# Altium integrated library TL3562-EVM-A1.1-000.IntLib: 110 symbols (part 1 of 2)
Pins are listed as number, name and electrical type; pins without a type are passive.

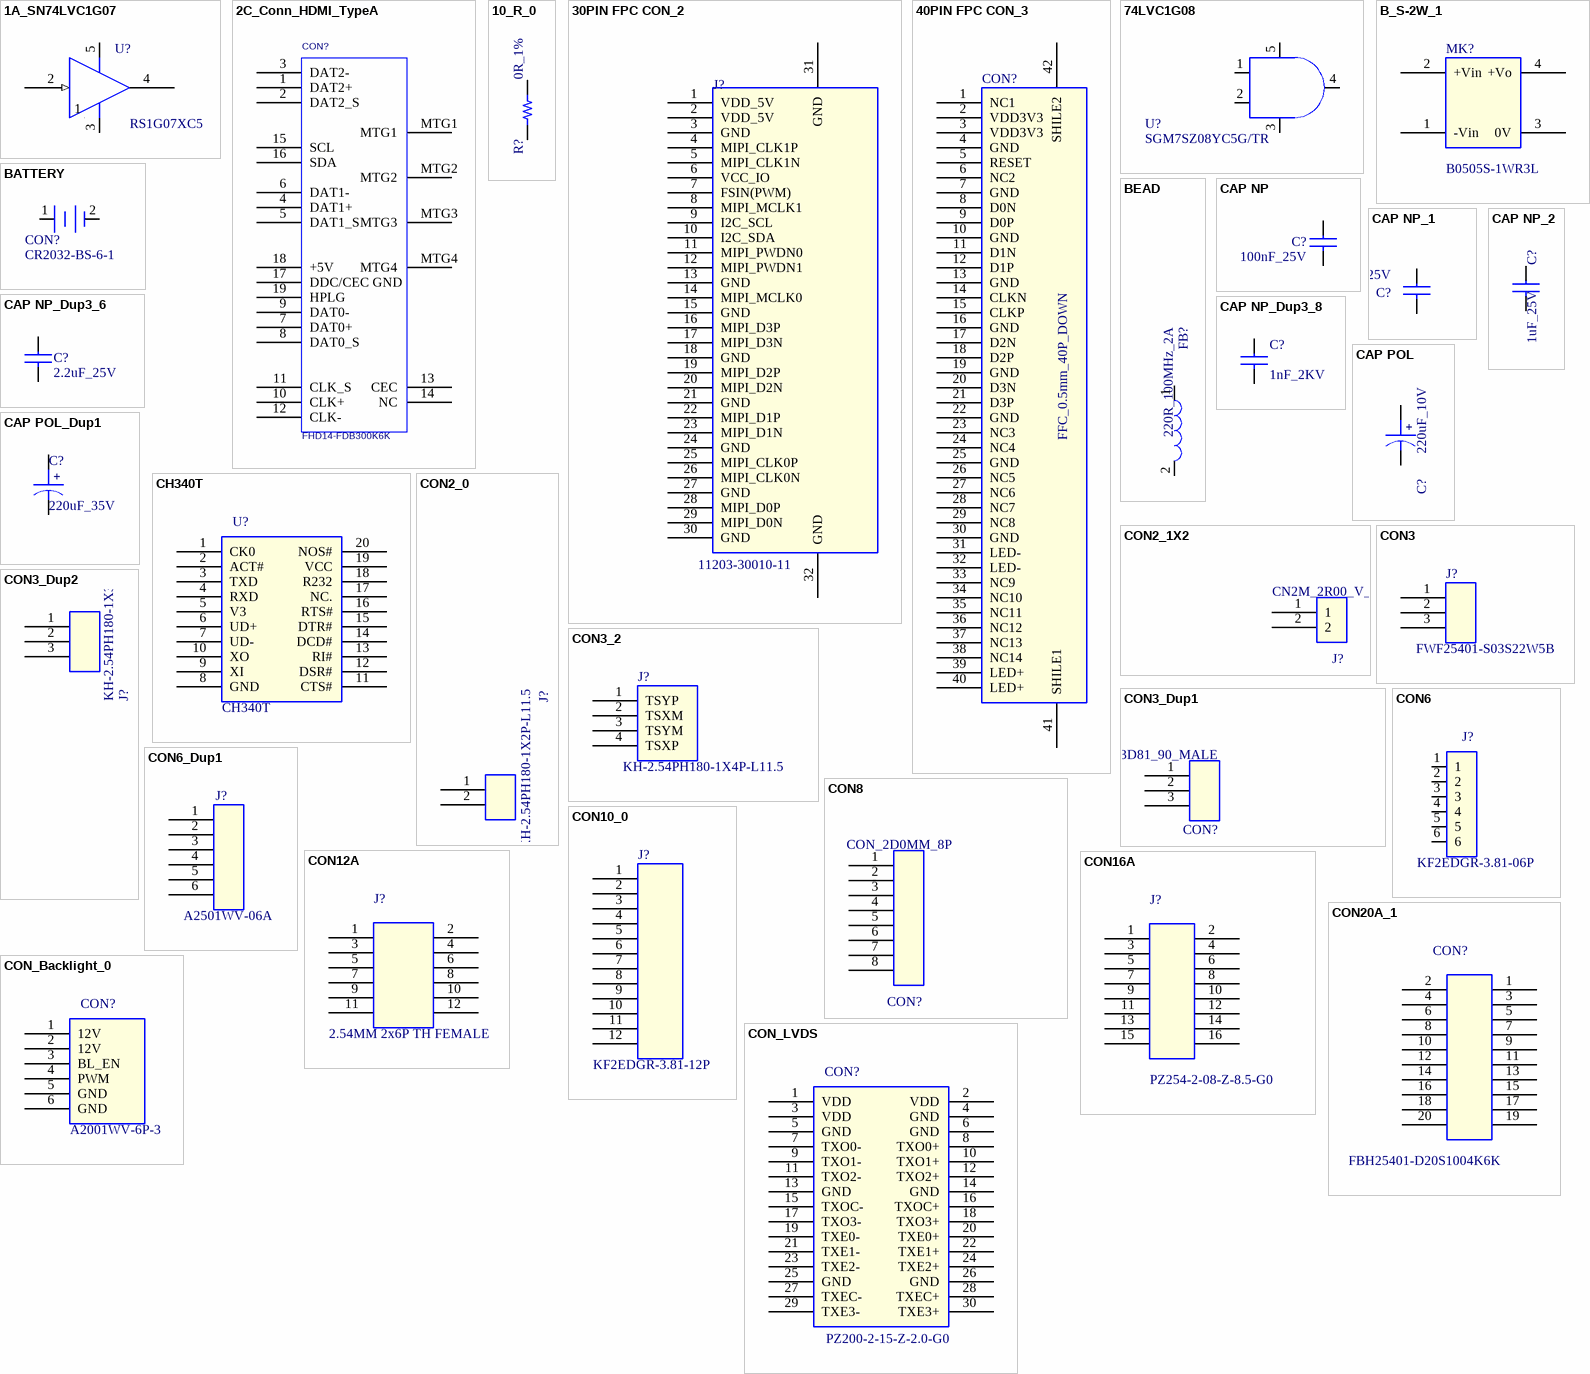
[diagram p0: symbols 1A_SN74LVC1G07 to CON_LVDS]

## 1A_SN74LVC1G07
designator U?, comment RS1G07XC5
1个1位缓冲器; PartName: SN74LVC1G07DCK; Mfr: TI; TIIntPartnumber: 1A0269; Manufacturer: 江苏润石科技有限公司（RUNIC）; Manufacturer Character: 中国大陆; Vendor: Digikey; Cost100: 1.11; Cost10K: 0.04; PCB Footprint: smd_dck5pin; DescriptiveText: Driver Open Drain output; Operation Temperature（℃）: -40~125℃; Remark: 单路开漏输出缓冲器/驱动器; MfrNum: SN74LVC1G07DCK; Temperature: -40~125℃; Manufacturer PartNumber: RS1G07XC5
footprint SC70-5-43M
pins: 1 NC, 2 A (in), 3 GND (power), 4 Y (oc), 5 VCC (power)

## 2C_Conn_HDMI_TypeA
designator CON?, comment FHD14-FDB300K6K
HDMI接口，19PIN，侧立，90度; PartName: Conn_HDMI_A; Mfr: FCI; MfrNum: 10029449-001RLF; TIIntPartnumber: 2C0085; Manufacturer Character: 中国大陆; Manufacturer: 深圳特思嘉工业电子有限公司（TXGA）; DescriptiveText: Connector HDMI Type A RA; Vendor: Digikey; Cost100: 0.91; Cost10K: 0.37; PCB Footprint: SMD_Ratbd; Operation Temperature（℃）: -40~85℃; Temperature: -25~75℃; Remark: HDMI接口，19PIN，侧立，90度; Manufacturer PartNumber: FHD14-FDB300K6K
footprint DIP_HDMI-A
pins: 1 DAT2+, 2 DAT2_S, 3 DAT2-, 4 DAT1+, 5 DAT1_S, 6 DAT1-, 7 DAT0+, 8 DAT0_S, 9 DAT0-, 10 CLK+, 11 CLK_S, 12 CLK-, 13 CEC, 14 NC, 15 SCL, 16 SDA, 17 DDC/CEC GND, 18 +5V, 19 HPLG, MTG1 (power), MTG2 (power), MTG3 (power), MTG4 (power)

## 10_R_0
designator R?, comment 0R_1%
0R,±1%,R0402,≥1/16W; Manufacturer Character: 中国大陆; CLASS: DISCRETE; room: ecat1; Operation Temperature（℃）: -55~155℃; As-Welded: /; Temperature: -55~155℃; PCB Footprint: R0402
footprint R0402
pins: 1, 2

## 30PIN FPC CON_2
designator J?, comment 11203-30010-11
FFC座,30PIN,间距0.5MM,90度,翻盖下接式,贴片; Manufacturer Character: 中国大陆; Manufacturer: 深圳市联畅精密电子有限公司; As-Welded: /; PCB Footprint: CON_FFC_0D5_30P; Manufacturer PartNumber: 11203-30010-11; Temperature: -55~85℃
footprint CON_FFC_0D5_30P
pins: 1 VDD_5V (power), 2 VDD_5V (power), 3 GND (power), 4 MIPI_CLK1P, 5 MIPI_CLK1N, 6 VCC_IO, 7 FSIN(PWM), 8 MIPI_MCLK1, 9 I2C_SCL, 10 I2C_SDA, 11 MIPI_PWDN0, 12 MIPI_PWDN1, 13 GND (power), 14 MIPI_MCLK0, 15 GND (power), 16 MIPI_D3P, 17 MIPI_D3N, 18 GND (power), 19 MIPI_D2P, 20 MIPI_D2N, 21 GND (power), 22 MIPI_D1P, 23 MIPI_D1N, 24 GND (power), 25 MIPI_CLK0P, 26 MIPI_CLK0N, 27 GND (power), 28 MIPI_D0P, 29 MIPI_D0N, 30 GND (power), 31 GND (power), 32 GND (power)

## 40PIN FPC CON_3
designator CON?, comment FFC_0.5mm_40P_DOWN
FFC座,40PIN,间距0.5MM,90度,翻盖下接式,贴片; Manufacturer Character: 中国大陆; Manufacturer PartNumber: 11203-40010-11; Manufacturer: 深圳市联畅精密电子有限公司; As-Welded: /; PCB Footprint: CON_FFC_0D5_40P; Temperature: -55~85℃
footprint CON_FFC_0D5_40P
pins: 1 NC1, 2 VDD3V3 (power), 3 VDD3V3 (power), 4 GND (power), 5 RESET, 6 NC2, 7 GND (power), 8 D0N, 9 D0P, 10 GND (power), 11 D1N, 12 D1P, 13 GND (power), 14 CLKN, 15 CLKP, 16 GND (power), 17 D2N, 18 D2P, 19 GND (power), 20 D3N, 21 D3P, 22 GND (power), 23 NC3, 24 NC4, 25 GND (power), 26 NC5, 27 NC6, 28 NC7, 29 NC8, 30 GND (power), 31 LED- (power), 32 LED- (power), 33 NC9, 34 NC10, 35 NC11, 36 NC12, 37 NC13, 38 NC14, 39 LED+ (power), 40 LED+ (power), 41 SHILE1, 42 SHILE2

## 74LVC1G08
designator U?, comment SGM7SZ08YC5G/TR
1个两输入与门; Manufacturer: 圣邦微电子股份有限公司（SGMICRO）; Manufacturer Character: 中国大陆; As-Welded: /; Operation Temperature（℃）: -40~85℃; PCB Footprint: SC70-5-43M; Manufacturer PartNumber: SGM7SZ08YC5G/TR; Temperature: -40~85℃
footprint SC70-5-43M
pins: 1 A, 2 B, 3 GND, 4 Y, 5 VCC

## B_S-2W_1
designator MK?, comment B0505S-1WR3L
DC-DC隔离电源,B0505S-1WR3L,输入电压5V,输出电压5V,输出电流max/min=200/20mA,效率max/min=78/82; Manufacturer: 广州金升阳科技有限公司（MORNSUN）; Manufacturer Character: 中国大陆; As-Welded: /; Operation Temperature（℃）: -40~105℃; PCB Footprint: DIP4_B0505S_1W; Manufacturer PartNumber: B0505S-1WR3L; Temperature: -40~85℃
footprint DIP4_B0505S_1W
pins: 1 -Vin, 2 +Vin, 3 0V, 4 +Vo

## BATTERY
designator CON?, comment CR2032-BS-6-1
2032,纽扣电池座,2PIN,180度,白色,卧式,贴片; Manufacturer: 深圳市琦捷电子有限公司（Q&J）; Manufacturer Character: 中国大陆; As-Welded: /; room: 4; PCB Footprint: CON_BATTERY_CR2032; Manufacturer PartNumber: CR2032-BS-6-1; Temperature: -55~85℃
footprint CON_BATTERY_CR2032
pins: 1 +, 2 -

## BEAD
designator FB?, comment 220R_100MHz_2A
磁珠,50mΩ,2.2A,220R@100MHz; Manufacturer Character: 中国大陆; Manufacturer PartNumber: UPZ1608U221-2R2TF; Manufacturer: 深圳顺络电子股份有限公司（Sunlord）; PCB Footprint: L0603; As-Welded: /; RK PN: BLM18PG181SN1; Priority: A; Operation Temperature（℃）: -55~125℃; Temperature: -55~+125(Ta); Part Type: BEAD; Manufacturer PN: BLM18PG181SN1; Created by: YTL
footprint L0603
pins: 1, 2

## CAP NP
designator C?, comment 100nF_25V
贴片陶瓷电容,100nF,10%,25V,X5R; Manufacturer Character: 中国大陆; PCB Footprint: C0402; RK PN: C1005X5R1A104K050BA; Priority: A; Voltage: 10V; As-Welded: /; Operation Temperature（℃）: -55~85℃; Part Type: C0402; Dielectric: X5R; Tolerance: 10%; Manufacturer PN: C1005X5R1A104K050BA; Created by: JJJ
footprint C0402
pins: 1, 2

## CAP NP_1
designator C?, comment 22uF_25V
贴片陶瓷电容,22uF,20%,25V,X5R; Manufacturer PN: C2012X5R1A226K125AB; Manufacturer Character: 中国大陆; PCB Footprint: C0805; Operation Temperature（℃）: -55~85℃; As-Welded: /; Tolerance: 10%; Voltage: 10V; Priority: A; Created by: JJJ; Dielectric: X5R; Part Type: C0805; RK PN: C2012X5R1A226K125AB
footprint C0805
pins: 1, 2

## CAP NP_2
designator C?, comment 1uF_25V
贴片陶瓷电容,1uF,10%,25V,X5R; Manufacturer Character: 中国大陆; As-Welded: /; Operation Temperature（℃）: -55~85℃; room: 10; PCB Footprint: C0603
footprint C0603
pins: 1, 2

## CAP NP_Dup3_6
designator C?, comment 2.2uF_25V
贴片陶瓷电容,2.2uF,20%,25V,Y5V; Manufacturer Character: 中国大陆; As-Welded: /; Operation Temperature（℃）: -20~85℃; PCB Footprint: C1206
footprint C1206
pins: 1, 2

## CAP NP_Dup3_8
designator C?, comment 1nF_2KV
贴片陶瓷电容,1nF,10%,2KV,X7R; Manufacturer Character: 中国大陆; As-Welded: /; Operation Temperature（℃）: -55~125℃; PCB Footprint: C1210; Temperature: –55~125℃
footprint C1210
pins: 1, 2

## CAP POL
designator C?, comment 220uF_10V
D型钽电容,220uF,10%,10V; Manufacturer Character: 中国大陆; Manufacturer PartNumber: CA45-D010K227T; Manufacturer: 湖南湘怡中元科技有限公司; PCB Footprint: CAP_CASE_D; Operation Temperature（℃）: -55~125℃; As-Welded: /; Temperature: -55~125℃
footprint CAP_CASE_D
pins: 1, 2
text: +

## CAP POL_Dup1
designator C?, comment 220uF_35V
贴片式铝电解电容,220uF,20%,35V; Manufacturer PartNumber: RVT1V221M0810VG; Manufacturer: 东莞市合粤电子有限公司（Heyue）; Manufacturer Character: 中国大陆; As-Welded: /; room: DCIN; Operation Temperature（℃）: -55~105℃; PCB Footprint: cap_alu_smd_8x10d5; Temperature: -55~105℃
footprint cap_alu_smd_8x10d5
pins: 1, 2
text: +

## CH340T
designator U?
USB转UART芯片; Manufacturer Character: 中国大陆; Manufacturer: 南京沁恒微电子股份有限公司（WCH）; As-Welded: /; Operation Temperature（℃）: -40~85℃; PCB Footprint: TSSOP-20; Temperature: -40~85℃; Manufacturer PartNumber: CH340T
footprint TSSOP-20
pins: 1 CK0, 2 ACT#, 3 TXD, 4 RXD, 5 V3, 6 UD+, 7 UD-, 8 GND, 9 XI, 10 XO, 11 CTS#, 12 DSR#, 13 RI#, 14 DCD#, 15 DTR#, 16 RTS#, 17 NC., 18 R232, 19 VCC, 20 NOS#

## CON2_0
designator J?, comment KH-2.54PH180-1X2P-L11.5
排针,1x2PIN,间距2.54MM,180度,黑色,插件; Manufacturer Character: 中国大陆; Manufacturer: 深圳市金航标电子有限公司(kinghelm); PCB Footprint: header_1x2p_2d54_male; Operation Temperature（℃）: -55~105℃; As-Welded: /; Manufacturer PartNumber: KH-2.54PH180-1X2P-L11.5; Temperature: -40~105℃
footprint header_1x2p_2d54_male
pins: 1, 2

## CON2_1X2
designator J?, comment CN2M_2R00_V_P_DIP
端子座,1x2PIN,间距2.00MM,180度,插件; Manufacturer: 深圳市长江连接器有限公司（CJT）; Manufacturer Character: 中国大陆; Manufacturer PartNumber: A2001WV-2P-3; Operation Temperature（℃）: -40~105℃; RK PN: CW2001-02G-S03-C; Priority: A; As-Welded: /; PCB Footprint: CN2M_2R00_V_P_DIP; Part Type: Header; Manufacturer Part Number: CW2001-02G-S03-C; Created by: YWQ
footprint CN2M_2R00_V_P_DIP
pins: 1, 2

## CON3
designator J?, comment FWF25401-S03S22W5B
端子座,3PIN,间距2.54MM,180度,2510连接器,白色,插件; Manufacturer Character: 中国大陆; Manufacturer: 深圳特思嘉工业电子有限公司（TXGA）; As-Welded: /; PCB Footprint: mol22-23-2031; Manufacturer PartNumber: FWF25401-S03S22W5B; Temperature: -25~85℃
footprint mol22-23-2031
pins: 1, 2, 3

## CON3_2
designator J?, comment KH-2.54PH180-1X4P-L11.5
排针,1X4PIN,间距2.54MM,180度,黑色,插件; Manufacturer Character: 中国大陆; Manufacturer: 深圳市金航标电子有限公司(kinghelm); PCB Footprint: CON_TH_1x4P_2D54_H_DIP; room: DAC; Operation Temperature（℃）: -40~105℃; As-Welded: /; Manufacturer PartNumber: KH-2.54PH180-1X4P-L11.5; Temperature: -40-105℃
footprint CON_TH_1x4P_2D54_H_DIP
pins: 1 TSYP, 2 TSXM, 3 TSYM, 4 TSXP

## CON3_Dup1
designator CON?, comment CON_3P_3D81_90_MALE
端子座,3PIN,间距3.81MM,90度,绿色,插件; Manufacturer PartNumber: KF2EDGR-3.81-03P-14; Manufacturer: 慈溪市科发电子有限公司（KEFA）; Manufacturer Character: 中国大陆; As-Welded: /; room: 17; Operation Temperature（℃）: -40~105℃; PCB Footprint: CON_3P_3D81_90_MALE_NEW
footprint CON_3P_3D81_90_MALE_NEW
pins: 1, 2, 3

## CON3_Dup2
designator J?, comment KH-2.54PH180-1X3P-L11.5
排针,1x3PIN,间距2.54MM,180度,黑色,插件; Manufacturer: 深圳市金航标电子有限公司(kinghelm); Manufacturer Character: 中国大陆; PCB Footprint: CON3_2D254; room: DAC; Operation Temperature（℃）: -55~105℃; As-Welded: /; Manufacturer PartNumber: KH-2.54PH180-1X3P-L11.5; Temperature: -55~105℃
footprint CON3_2D254
pins: 1, 2, 3

## CON6
designator J?, comment KF2EDGR-3.81-06P
端子座,6PIN,间距3.81MM,90度,插件; Manufacturer Character: 中国大陆; Manufacturer: 慈溪市科发电子有限公司（KEFA）; PCB Footprint: kf2eg_3_81-6p; Operation Temperature（℃）: -40~105℃; As-Welded: /; Manufacturer PartNumber: KF2EDGR-3.81-06P
footprint kf2eg_3_81-6p
pins: 1, 2, 3, 4, 5, 6

## CON6_Dup1
designator J?, comment A2501WV-06A
XH2.54  6P 连接器 180度; Manufacturer: 深圳市长江连接器有限公司（CJT）; Manufacturer Character: 中国大陆; PCB Footprint: CON_XH_1x6P_2D54_H_M_DIP; Operation Temperature（℃）: -25~85℃; As-Welded: /; Temperature: -25~85℃; Manufacturer PartNumber: A2501WV-06A
footprint CON_XH_1x6P_2D54_H_M_DIP
pins: 1, 2, 3, 4, 5, 6

## CON8
designator CON?, comment CON_2D0MM_8P
端子座,1x8PIN,间距2.00MM,180度,插件; Manufacturer: 深圳市长江连接器有限公司（CJT）; Manufacturer Character: 中国大陆; Manufacturer PartNumber: A2001WV-8P-3; As-Welded: /; Operation Temperature（℃）: -40~105℃; PCB Footprint: DIP_CON_2D0MM_8P
footprint DIP_CON_2D0MM_8P
pins: 1, 2, 3, 4, 5, 6, 7, 8

## CON10_0
designator J?, comment KF2EDGR-3.81-12P
端子座,12PIN,间距3.81MM,90度,插件; Manufacturer: 慈溪市科发电子有限公司（KEFA）; Manufacturer Character: 中国大陆; PCB Footprint: KF2EDGR-3d81-12P; As-Welded: /; Operation Temperature（℃）: -40~105℃; Manufacturer PartNumber: KF2EDGR-3.81-12P; Temperature: -40~105℃
footprint KF2EDGR-3d81-12P
pins: 1, 2, 3, 4, 5, 6, 7, 8, 9, 10, 11, 12

## CON12A
designator J?, comment 2.54MM 2x6P TH FEMALE
排母,2X6PIN,间距2.54MM,180度,插件; Manufacturer Character: 中国大陆; Manufacturer PartNumber: A2541HWV-2x6P; Manufacturer: 深圳市长江连接器有限公司（CJT）; PCB Footprint: header_2x6_2d54_male; As-Welded: /; Temperature: -55~105℃
footprint header_2x6_2d54_male
pins: 1, 2, 3, 4, 5, 6, 7, 8, 9, 10, 11, 12

## CON16A
designator J?, comment PZ254-2-08-Z-8.5-G0
排针,2x8PIN,间距2.54MM,180度,黑色,插件; Manufacturer Character: 中国大陆; Manufacturer: 深圳市华灿天禄电子有限公司（hctldz）; Operation Temperature（℃）: -40~105℃; As-Welded: /; PCB Footprint: CON_2D54_2x8_TH; Manufacturer PartNumber: PZ254-2-08-Z-8.5-G0
footprint CON_2D54_2x8_TH
pins: 1, 2, 3, 4, 5, 6, 7, 8, 9, 10, 11, 12, 13, 14, 15, 16

## CON20A_1
designator CON?, comment FBH25401-D20S1004K6K
简易牛角座,2X10PIN,间距2.54MM,180度,公座,黑色,插件; Manufacturer: 深圳特思嘉工业电子有限公司（TXGA）; Manufacturer Character: 中国大陆; PCB Footprint: con_2d54_2x10_th_box; As-Welded: /; Operation Temperature（℃）: -40~105℃; Manufacturer PartNumber: FBH25401-D20S1004K6K
footprint con_2d54_2x10_th_box
pins: 1, 2, 3, 4, 5, 6, 7, 8, 9, 10, 11, 12, 13, 14, 15, 16, 17, 18, 19, 20

## CON_Backlight_0
designator CON?, comment A2001WV-6P-3
白色端子,立式插件,间距2.0mm,6P; Manufacturer: 深圳市长江连接器有限公司（CJT）; Manufacturer Character: 中国大陆; As-Welded: /; PCB Footprint: CON_PHD_2D0_1x6P_TH_180; Manufacturer PartNumber: A2001WV-6P-3; Temperature: -25~85℃
footprint CON_PHD_2D0_1x6P_TH_180
pins: 1 12V (power), 2 12V (power), 3 BL_EN, 4 PWM, 5 GND (power), 6 GND (power)

## CON_LVDS
designator CON?, comment PZ200-2-15-Z-2.0-G0
排针,2x15PIN,间距2.00MM,180度,黑色,插件; Manufacturer: 深圳市华灿天禄电子有限公司（hctldz）; Manufacturer Character: 中国大陆; PCB Footprint: con_2mm_2x15p; Operation Temperature（℃）: -40~105℃; As-Welded: /; Manufacturer PartNumber: PZ200-2-15-Z-2.0-G0; Temperature: -40~105℃
footprint con_2mm_2x15p
pins: 1 VDD (power), 2 VDD (power), 3 VDD (power), 4 GND (power), 5 GND (power), 6 GND (power), 7 TXO0-, 8 TXO0+, 9 TXO1-, 10 TXO1+, 11 TXO2-, 12 TXO2+, 13 GND (power), 14 GND (power), 15 TXOC-, 16 TXOC+, 17 TXO3-, 18 TXO3+, 19 TXE0-, 20 TXE0+, 21 TXE1-, 22 TXE1+, 23 TXE2-, 24 TXE2+, 25 GND (power), 26 GND (power), 27 TXEC-, 28 TXEC+, 29 TXE3-, 30 TXE3+

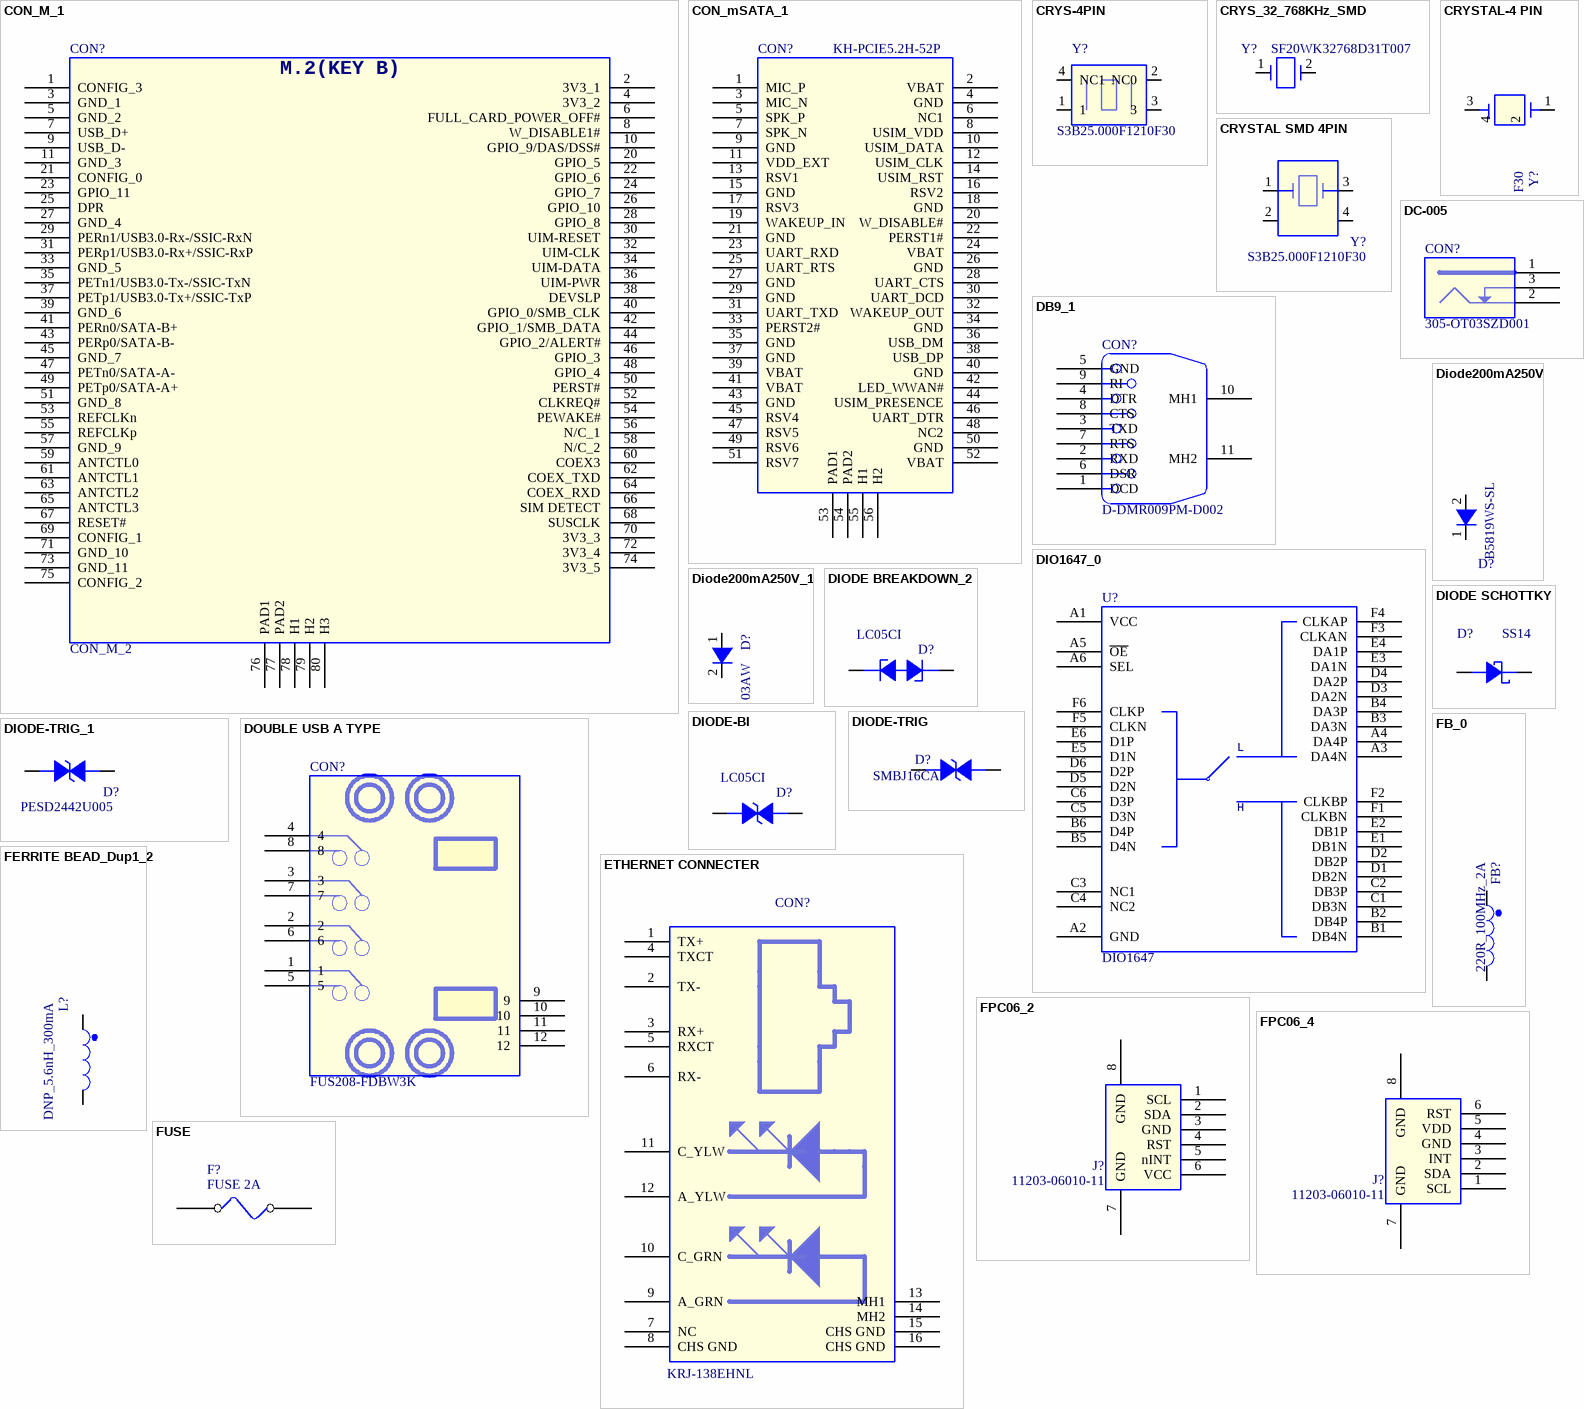
[diagram p1: symbols CON_M_1 to FUSE]

## CON_M_1
designator CON?, comment CON_M_2
NGFF（M.2）金手指连接器，KEY B,高4.2mm; Manufacturer PartNumber: APCI0105-P001A; Manufacturer: 深圳市连欣科技有限公司; PCB Footprint: conn-smd_apci0103-p001a; As-Welded: /
footprint conn-smd_apci0103-p001a
pins: 1 CONFIG_3, 2 3V3_1, 3 GND_1, 4 3V3_2, 5 GND_2, 6 FULL_CARD_POWER_OFF#, 7 USB_D+, 8 W_DISABLE1#, 9 USB_D-, 10 GPIO_9/DAS/DSS#, 11 GND_3, 20 GPIO_5, 21 CONFIG_0, 22 GPIO_6, 23 GPIO_11, 24 GPIO_7, 25 DPR, 26 GPIO_10, 27 GND_4, 28 GPIO_8, 29 PERn1/USB3.0-Rx-/SSIC-RxN, 30 UIM-RESET, 31 PERp1/USB3.0-Rx+/SSIC-RxP, 32 UIM-CLK, 33 GND_5, 34 UIM-DATA, 35 PETn1/USB3.0-Tx-/SSIC-TxN, 36 UIM-PWR, 37 PETp1/USB3.0-Tx+/SSIC-TxP, 38 DEVSLP, 39 GND_6, 40 GPIO_0/SMB_CLK, 41 PERn0/SATA-B+, 42 GPIO_1/SMB_DATA, 43 PERp0/SATA-B-, 44 GPIO_2/ALERT#, 45 GND_7, 46 GPIO_3, 47 PETn0/SATA-A-, 48 GPIO_4, 49 PETp0/SATA-A+, 50 PERST#, 51 GND_8, 52 CLKREQ#, 53 REFCLKn, 54 PEWAKE#, 55 REFCLKp, 56 N/C_1, 57 GND_9, 58 N/C_2, 59 ANTCTL0, 60 COEX3, 61 ANTCTL1, 62 COEX_TXD, 63 ANTCTL2, 64 COEX_RXD, 65 ANTCTL3, 66 SIM DETECT, 67 RESET#, 68 SUSCLK, 69 CONFIG_1, 70 3V3_3, 71 GND_10, 72 3V3_4, 73 GND_11, 74 3V3_5, 75 CONFIG_2, 76 PAD1, 77 PAD2, 78 H1, 79 H2, 80 H3
text: M.2(KEY B)

## CON_mSATA_1
designator CON?, comment KH-PCIE5.2H-52P
mini PCIE SMT插槽 5.2高; Manufacturer Character: 中国大陆; Manufacturer: 深圳市金航标电子有限公司(kinghelm); PCB Footprint: CON_MINI_PCIE_4G; As-Welded: /; Temperature: -25~80℃; Manufacturer PartNumber: KH-PCIE5.2H-52P
footprint CON_MINI_PCIE_4G
pins: 1 MIC_P, 2 VBAT (power), 3 MIC_N, 4 GND (power), 5 SPK_P, 6 NC1, 7 SPK_N, 8 USIM_VDD, 9 GND (power), 10 USIM_DATA, 11 VDD_EXT, 12 USIM_CLK, 13 RSV1, 14 USIM_RST, 15 GND (power), 16 RSV2, 17 RSV3, 18 GND (power), 19 WAKEUP_IN, 20 W_DISABLE#, 21 GND (power), 22 PERST1#, 23 UART_RXD, 24 VBAT (power), 25 UART_RTS, 26 GND (power), 27 GND (power), 28 UART_CTS, 29 GND (power), 30 UART_DCD, 31 UART_TXD, 32 WAKEUP_OUT, 33 PERST2#, 34 GND (power), 35 GND (power), 36 USB_DM, 37 GND (power), 38 USB_DP, 39 VBAT (power), 40 GND (power), 41 VBAT (power), 42 LED_WWAN#, 43 GND (power), 44 USIM_PRESENCE, 45 RSV4, 46 UART_DTR, 47 RSV5, 48 NC2, 49 RSV6, 50 GND (power), 51 RSV7, 52 VBAT (power), 53 PAD1, 54 PAD2, 55 H1, 56 H2

## CRYS-4PIN
designator Y?, comment S3B25.000F1210F30
四脚无源晶振,25MHz,±10ppm,12pF,30Ω,±30ppm; Manufacturer Character: 中国大陆; Manufacturer: 深圳市星通时频电子有限公司公司（JSCJ）; As-Welded: /; Operation Temperature（℃）: -40~85℃; PCB Footprint: SMD_3225; Temperature: -40~85℃; Manufacturer PartNumber: S3B25.000F1210F30
footprint SMD_3225
pins: 1, 2 NC0, 3, 4 NC1

## CRYS_32_768KHz_SMD
designator Y?, comment SF20WK32768D31T007
两脚无源晶振,32.768KHz,±20ppm,12.5pF,80KΩ,±20ppm; PartName: Crystal32.768KHzMC306; Mfr: Epson; MfrNum: MC-30632.7680k-A; TIIntPartnumber: 1Y0029; Manufacturer: 湖北泰晶电子科技股份有限公司（TKD）; Manufacturer Character: 中国大陆; TN: tbd; Vendor: Digikey; Cost100: 0.41; Cost10K: 0.338; PCB Footprint: smd; As-Welded: /; Operation Temperature（℃）: -40~85℃; Manufacturer PartNumber: SF20WK32768D31T007; Temperature: -40~85℃
footprint SMD_2012
pins: 1, 2

## CRYSTAL SMD 4PIN
designator Y?, comment S3B25.000F1210F30
四脚无源晶振,25MHz,±10ppm,12pF,30Ω,±30ppm; Manufacturer Character: 中国大陆; Manufacturer: 深圳市星通时频电子有限公司公司（JSCJ）; PCB Footprint: SMD_3225; room: RGMII1; Operation Temperature（℃）: -40~85℃; As-Welded: /; Temperature: -55~150℃; Manufacturer PartNumber: S3B25.000F1210F30
footprint SMD_3225
pins: 1, 2, 3, 4

## CRYSTAL-4 PIN
designator Y?, comment S3B25.000F1210F30
四脚无源晶振,25MHz,±10ppm,12pF,30Ω,±30ppm; Manufacturer Character: 中国大陆; Manufacturer: 深圳市星通时频电子有限公司公司（JSCJ）; As-Welded: /; Operation Temperature（℃）: -40~85℃; PCB Footprint: SMD_3225; Manufacturer PartNumber: S3B25.000F1210F30; Temperature: -40~85
footprint SMD_3225
pins: 1, 2, 3, 4

## DB9_1
designator CON?, comment D-DMR009PM-D002
DB9,9PIN,90度,公头,黑色,插件; Manufacturer: 深圳市灿科盟实业有限公司（ckmtw）; Manufacturer Character: 中国大陆; PCB Footprint: CON_DB9; As-Welded: /; Operation Temperature（℃）: -50~105℃; room: RS232; Temperature: -55~105℃; Manufacturer PartNumber: D-DMR009PM-D002
footprint CON_DB9
pins: 1 DCD, 2 RXD, 3 TXD, 4 DTR, 5 GND (power), 6 DSR, 7 RTS, 8 CTS, 9 RI, 10 MH1, 11 MH2

## DC-005
designator CON?, comment 305-OT03SZD001
DC-005,3PIN,90度,母座,2.0MM内径,插件; Manufacturer Character: 中国大陆; Manufacturer: 广东纳特康电子股份有限公司(natconn); As-Welded: /; Operation Temperature（℃）: -30~70℃; room: dcin; PCB Footprint: con_dc005_new; Temperature: -30~70; Manufacturer PartNumber: 305-OT03SZD001
footprint con_dc005_new
pins: 1, 2 22, 3

## DIO1647_0
designator U?, comment DIO1647
3.5GHz, 十单刀双掷MIPI 开关; Manufacturer Character: 中国大陆; Manufacturer PartNumber: DIO1647WL36; Manufacturer: 江苏帝奥微电子股份有限公司; As-Welded: /; PCB Footprint: WLCSP-36-0d4mm; Temperature: -40~85℃
footprint WLCSP-36-0d4mm
pins: A1 VCC (power), A2 GND (power), A3 DA4N, A4 DA4P, A5 ~{OE}, A6 SEL, B1 DB4N, B2 DB4P, B3 DA3N, B4 DA3P, B5 D4N, B6 D4P, C1 DB3N, C2 DB3P, C3 NC1, C4 NC2, C5 D3N, C6 D3P, D1 DB2N, D2 DB2P, D3 DA2N, D4 DA2P, D5 D2N, D6 D2P, E1 DB1N, E2 DB1P, E3 DA1N, E4 DA1P, E5 D1N, E6 D1P, F1 CLKBN, F2 CLKBP, F3 CLKAN, F4 CLKAP, F5 CLKN, F6 CLKP
text: L; H

## Diode200mA250V
designator D?, comment B5819WS-SL
肖特基二极管,VR=40V,IF=1A,VF=0.6V@1A; PartName: Diode200mA250V; Mfr: On Semiconductor; MfrNum: MMSD103T1G; TIIntPartnumber: 1E0013; Manufacturer Character: 中国大陆; Manufacturer: 江苏长晶科技有限公司（JSCJ）; Descriptive_Text: Diode 200mA 250V 1.25V Forward Drop; Vendor: Digikey; Cost100: 0.23; Cost10K: 0.07; PCB Footprint: smd123; As-Welded: /; Operation Temperature（℃）: -55~125℃; DescriptiveText: Diode 200mA 250V 1.25V Forward Drop; Temperature: -55~150; Manufacturer PartNumber: B5819WS-SL
footprint SOD-323
pins: 1 Cathode, 2 Anode

## Diode200mA250V_1
designator D?, comment SD103AW
肖特基二极管,VR=40V,IF=350mA,VF=0.37V@20mA,trr=10ns; TIIntPartnumber: 1E0013; MfrNum: MMSD103T1G; Mfr: On Semiconductor; PartName: Diode200mA250V; Manufacturer: 江苏长晶科技有限公司（JSCJ）; Manufacturer Character: 中国大陆; DescriptiveText: Diode 200mA 250V 1.25V Forward Drop; PCB Footprint: smd123; Cost10K: 0.07; Cost100: 0.23; Vendor: Digikey; As-Welded: /; Operation Temperature（℃）: -40~125℃; Descriptive_Text: Diode 200mA 250V 1.25V Forward Drop; Manufacturer PartNumber: SD103AW; Temperature: -55~150℃
footprint SOD-123_NEW
pins: 1 Anode, 2 Cathode

## DIODE BREAKDOWN_2
designator D?, comment LC05CI
TVS二极管,VRWM=5V,VBR=6V,一组,双向,30KV,30KV; Manufacturer Part Number: PESD3V3L1BA; Manufacturer: 上海雷卯电子科技有限公司（Leiditech）; Manufacturer Character: 中国大陆; As-Welded: /; Operation Temperature（℃）: -55~125℃; room: KEY; PCB Footprint: SOD323_BI; Temperature: -55~155℃; Manufacturer PartNumber: LC05CI
footprint SOD323_BI
pins: 1 ANODE1, 2 CATHODE2

## DIODE SCHOTTKY
designator D?, comment SS14
肖特基二极管,VR=40V,IF=1A,VF=0.55V@1A; Manufacturer: 江苏长晶科技有限公司（JSCJ）; Manufacturer Character: 中国大陆; As-Welded: /; Operation Temperature（℃）: -55~125℃; PCB Footprint: SMA; Temperature: -55~125℃; Manufacturer PartNumber: SS14
footprint SMA
pins: 1 ANODE, 2 CATHODE

## DIODE-BI
designator D?, comment LC05CI
TVS二极管,VRWM=5V,VBR=6V,一组,双向,30KV,30KV; Manufacturer Part Number: PESD3V3L1BA; Manufacturer: 上海雷卯电子科技有限公司（Leiditech）; Manufacturer Character: 中国大陆; As-Welded: /; Operation Temperature（℃）: -55~125℃; room: KEY; PCB Footprint: SOD323_BI; Temperature: -55~155℃; Manufacturer PartNumber: LC05CI
footprint SOD323_BI
pins: 1, 2

## DIODE-TRIG
designator D?, comment SMBJ16CA
TVS二极管,VRWM=16V,VBR=17.8V,一组,双向; Manufacturer Character: 中国大陆; Manufacturer: 江苏长晶科技有限公司（JSCJ）; As-Welded: /; Operation Temperature（℃）: -55~150℃; room: DCIN; PCB Footprint: SMB; Temperature: -55~150℃; Manufacturer PartNumber: SMBJ16CA
footprint SMB
pins: 1, 2

## DIODE-TRIG_1
designator D?, comment PESD2442U005
ESD二极管,VRWM=24V,VBR=300V,一组,双向,8KV,15KV; Manufacturer: 上海雷卯电子科技有限公司（Leiditech）; Manufacturer Character: 中国大陆; PCB Footprint: ESD_0402; Operation Temperature（℃）: -40~90℃; As-Welded: /; Temperature: -55~125℃; Manufacturer PartNumber: PESD2442U005
footprint ESD_0402
pins: 1, 2

## DOUBLE USB A TYPE
designator CON?, comment FUS208-FDBW3K
USB-A-双层座,8PIN,90度,母座,插件; Manufacturer: 深圳特思嘉工业电子有限公司（TXGA）; Manufacturer Character: 中国大陆; Operation Temperature（℃）: -40~85℃; room: USB HUB; As-Welded: /; PCB Footprint: CON_USBA_DUAL; Manufacturer PartNumber: FUS208-FDBW3K
footprint CON_USBA_DUAL
pins: 1, 2, 3, 4, 5, 6, 7, 8, 9, 10, 11, 12

## ETHERNET CONNECTER
designator CON?, comment KRJ-138EHNL
RJ45连接器,12PIN,90度,母座,插件; Manufacturer Character: 中国大陆; Manufacturer: 东莞市科优达电子科技有限公司（DGKYD）; As-Welded: /; room: ecat1; Operation Temperature（℃）: -40~85℃; PCB Footprint: CON_YDS_13F-64GYD2PLXNL; Manufacturer PartNumber: KRJ-138EHNL; Manufacturer Part Number: KRJ-138EHNL; Temperature: -40~85℃
footprint CON_YDS_13F-64GYD2PLXNL
pins: 1 TX+, 2 TX-, 3 RX+, 4 TXCT, 5 RXCT, 6 RX-, 7 NC, 8 CHS GND (power), 9 A_GRN, 10 C_GRN, 11 C_YLW, 12 A_YLW, 13 MH1, 14 MH2, 15 CHS GND (power), 16 CHS GND (power)

## FB_0
designator FB?, comment 220R_100MHz_2A
磁珠,50mΩ,2.2A,220R@100MHz; Manufacturer Character: 中国大陆; Manufacturer PartNumber: UPZ1608U221-2R2TF; Manufacturer: 深圳顺络电子股份有限公司（Sunlord）; Operation Temperature（℃）: -55~125℃; As-Welded: /; PCB Footprint: L0603; Temperature: -55~125℃
footprint L0603
pins: 1, 2

## FERRITE BEAD_Dup1_2
designator L?, comment DNP_5.6nH_300mA
Manufacturer Character: 中国大陆; As-Welded: DNP; PCB Footprint: L0402
footprint L0402
pins: 1, 2

## FPC06_2
designator J?, comment 11203-06010-11
FFC座,6PIN,间距0.5MM,90度,翻盖下接式,贴片; Manufacturer: 深圳市联畅精密电子有限公司; Manufacturer Character: 中国大陆; As-Welded: /; PCB Footprint: CON_FFC_0D5_6P; Manufacturer PartNumber: 11203-06010-11; Temperature: -55~85℃
footprint CON_FFC_0D5_6P
pins: 1 SCL, 2 SDA, 3 GND (power), 4 RST, 5 nINT, 6 VCC, 7 GND (power), 8 GND (power)
1 alternate drawing of the same symbol

## FPC06_4
designator J?, comment 11203-06010-11
FFC座,6PIN,间距0.5MM,90度,翻盖下接式,贴片; Manufacturer Character: 中国大陆; Manufacturer: 深圳市联畅精密电子有限公司; PCB Footprint: CON_FFC_0D5_6P; As-Welded: /; Temperature: -55~85℃; Manufacturer PartNumber: 11203-06010-11
footprint CON_FFC_0D5_6P
pins: 1 SCL, 2 SDA, 3 INT, 4 GND (power), 5 VDD, 6 RST, 7 GND (power), 8 GND (power)
1 alternate drawing of the same symbol

## FUSE
designator F?, comment FUSE 2A
保险丝，Vmax=72V,Imax=50A,Ihold=2A; Manufacturer PartNumber: F12T2; Manufacturer: 东莞市竞沃电子科技有限公司（TLC）; Manufacturer Character: 中国大陆; PCB Footprint: F1206; Operation Temperature（℃）: -55~125℃; As-Welded: /; Temperature: -55~125℃
footprint F1206
pins: 1, 2

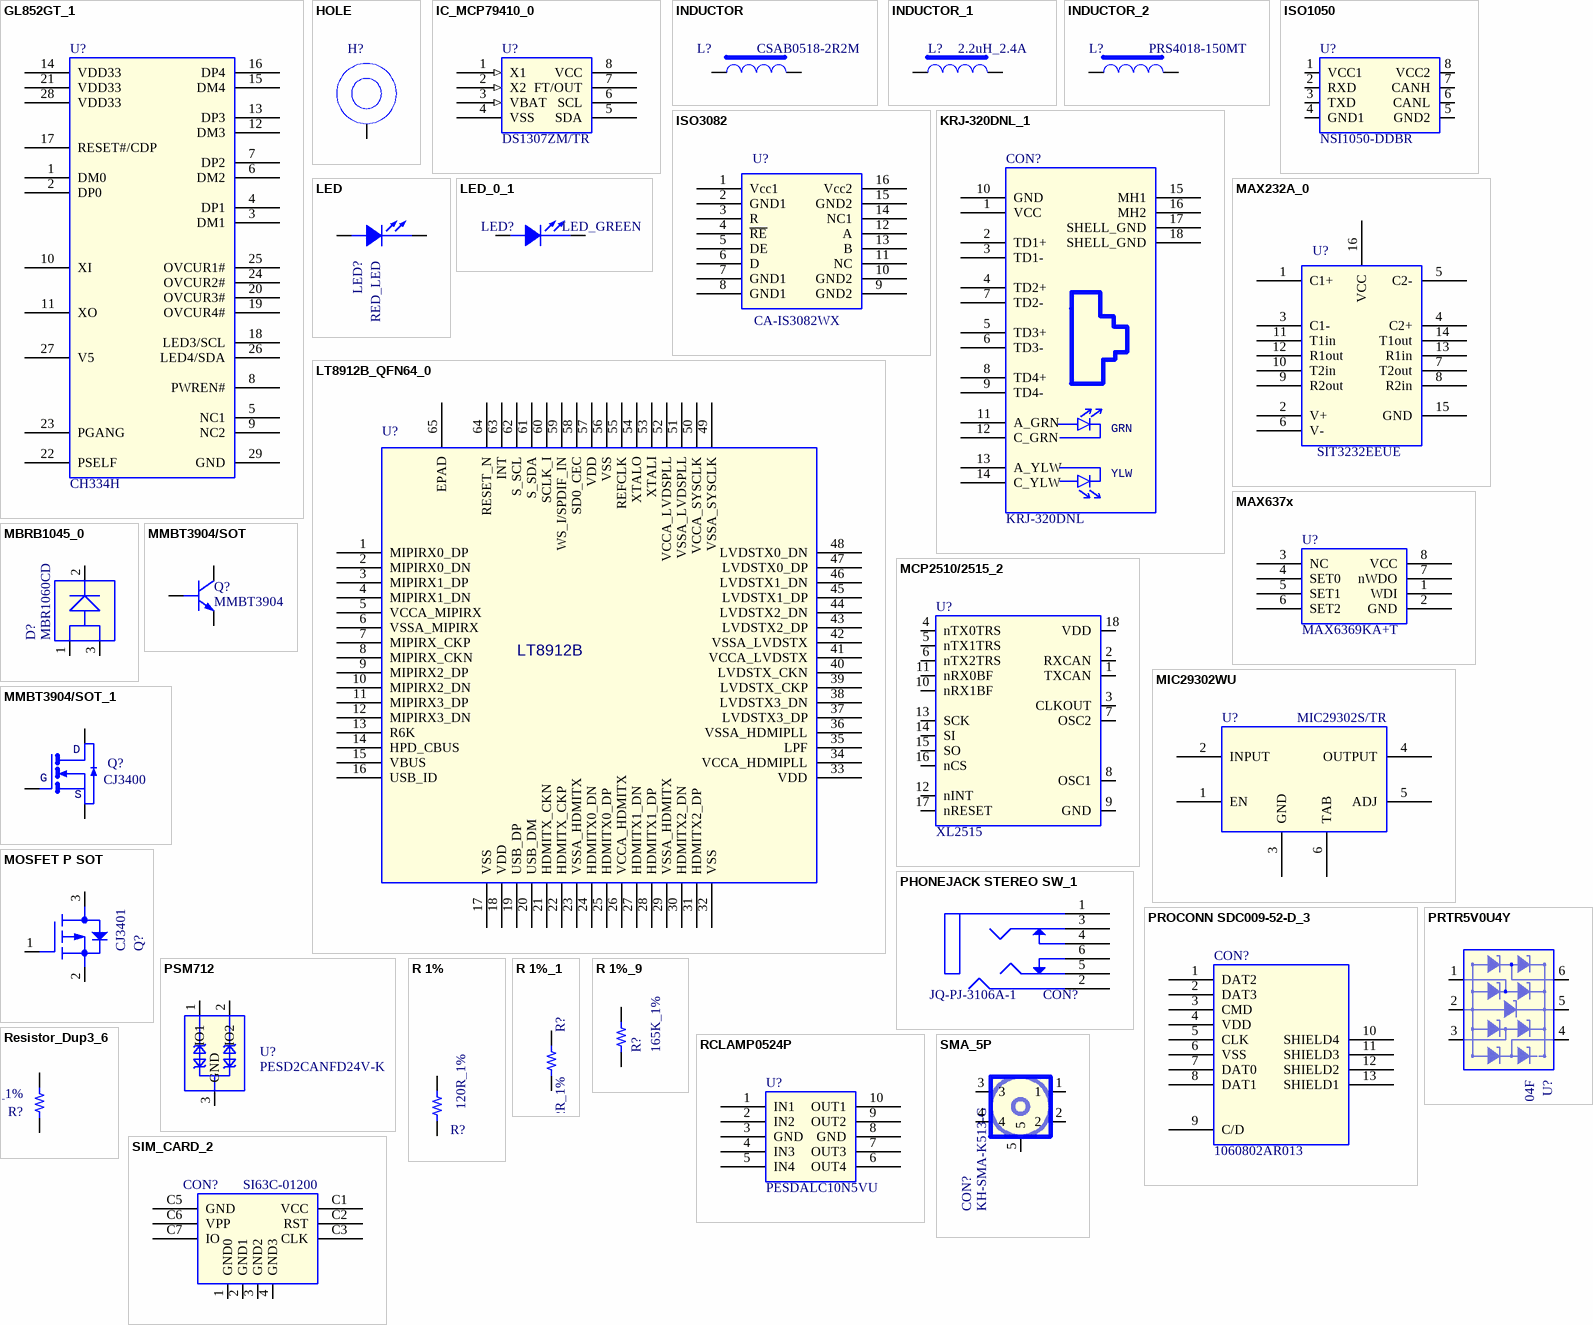
[diagram p2: symbols GL852GT_1 to SMA_5P]

## GL852GT_1
designator U?, comment CH334H
USB HUB控制器; Manufacturer Character: 中国大陆; Manufacturer: 南京沁恒微电子股份有限公司（WCH）; PCB Footprint: QFN28_5x5; room: USB HUB; Operation Temperature（℃）: -40~85℃; As-Welded: /; Manufacturer PartNumber: CH334H; Temperature: -40~85℃
footprint QFN28_5x5
pins: 1 DM0, 2 DP0, 3 DM1, 4 DP1, 5 NC1, 6 DM2, 7 DP2, 8 PWREN#, 9 NC2, 10 XI, 11 XO, 12 DM3, 13 DP3, 14 VDD33 (power), 15 DM4, 16 DP4, 17 RESET#/CDP, 18 LED3/SCL, 19 OVCUR4#, 20 OVCUR3#, 21 VDD33 (power), 22 PSELF, 23 PGANG, 24 OVCUR2#, 25 OVCUR1#, 26 LED4/SDA, 27 V5, 28 VDD33 (power), 29 GND (power)

## HOLE
designator H?  (value not drawn)
Manufacturer Character: 中国大陆; PCB Footprint: MHOLE_C200D125; As-Welded: DNP
footprint MHOLE_C200D125
pins: 1

## IC_MCP79410_0
designator U?, comment DS1307ZM/TR
RTC芯片; Manufacturer Character: 中国大陆; Manufacturer: 广东华冠半导体有限公司（HGSEMI）; As-Welded: /; Operation Temperature（℃）: -40~85℃; PCB Footprint: SOIC8_D8; Temperature: -40~85℃; Manufacturer PartNumber: DS1307ZM/TR
footprint SOIC8_D8
pins: 1 X1 (in), 2 X2 (in), 3 VBAT (in), 4 VSS (power), 5 SDA, 6 SCL, 7 FT/OUT, 8 VCC (power)

## INDUCTOR
designator L?, comment CSAB0518-2R2M
贴片功率电感,2.2uH,0.035Ω,Isat=6.5A,Irms=5A; Manufacturer: 深圳市科达嘉电子有限公司（CODACA）; Manufacturer Character: 中国大陆; Parameter: L2520，奇力新一体成型电感，最大额定电流3A，内阻65毫欧，20%; PCB Footprint: SMD_CSAB0518; Operation Temperature（℃）: -40~125℃; As-Welded: /; Manufacturer PartNumber: CSAB0518-2R2M; Temperature: -40~125℃
footprint SMD_CSAB0518
pins: 1, 2

## INDUCTOR_1
designator L?, comment 2.2uH_2.4A
贴片功率电感,2.2uH,0.096Ω,Isat=2.9A,Irms=2.4A; Manufacturer Character: 中国大陆; Manufacturer PartNumber: WPN252010U2R2MT; Manufacturer: 深圳顺络电子股份有限公司（Sunlord）; Parameter: L2520，奇力新一体成型电感，最大额定电流3A，内阻65毫欧，20%; PCB Footprint: SMD-L2520M-2P; As-Welded: /; Current: 5A; Operation Temperature（℃）: -40~125℃; Temperature: -40~125
footprint SMD-L2520M-2P
pins: 1, 2

## INDUCTOR_2
designator L?, comment PRS4018-150MT
贴片功率电感,15uH,0.25Ω,Isat=0.94A; Manufacturer Character: 中国大陆; Manufacturer: 广东风华高新科技股份有限公司; Parameter: L2520，奇力新一体成型电感，最大额定电流3A，内阻65毫欧，20%; PCB Footprint: L_L4D5xW4D0_H3D2; As-Welded: /; Operation Temperature（℃）: -40~125℃; Manufacturer PartNumber: PRS4018-150MT; Temperature: -40~125℃
footprint L_L4D5xW4D0_H3D2
pins: 1, 2

## ISO1050
designator U?, comment NSI1050-DDBR
隔离CAN收发器; Manufacturer Character: 中国大陆; Manufacturer: 苏州纳芯微电子股份有限公司（NOVOSENSE）; PCB Footprint: SOP8; Operation Temperature（℃）: -40~125℃; As-Welded: /; Manufacturer PartNumber: NSI1050-DDBR; Temperature: -40~125℃
footprint SOP8
pins: 1 VCC1 (power), 2 RXD, 3 TXD, 4 GND1 (power), 5 GND2 (power), 6 CANL, 7 CANH, 8 VCC2 (power)

## ISO3082
designator U?, comment CA-IS3082WX
CA-IS308x 隔离 5kV 全/半双工 RS485 收发器; Manufacturer Character: 中国大陆; Manufacturer: 上海川土微电子有限公司（Chipanalog）; As-Welded: /; room: 6; Operation Temperature（℃）: -40~125℃; PCB Footprint: SOIC16; Manufacturer PartNumber: CA-IS3082WX; Temperature: -40~125℃
footprint SOIC16
pins: 1 Vcc1, 2 GND1 (power), 3 R, 4 ~{RE}, 5 DE, 6 D, 7 GND1 (power), 8 GND1 (power), 9 GND2 (power), 10 GND2 (power), 11 NC, 12 A, 13 B, 14 NC1, 15 GND2 (power), 16 Vcc2

## KRJ-320DNL_1
designator CON?, comment KRJ-320DNL
RJ45连接器,14PIN,90度,母座,插件; Manufacturer: 东莞市科优达电子科技有限公司（DGKYD）; Manufacturer Character: 中国大陆; As-Welded: /; Operation Temperature（℃）: -40~85℃; PCB Footprint: KRJ-320DNL_14P; Manufacturer PartNumber: KRJ-320DNL; Temperature: -40~85℃
footprint KRJ-320DNL_14P
pins: 1 VCC, 2 TD1+, 3 TD1-, 4 TD2+, 5 TD3+, 6 TD3-, 7 TD2-, 8 TD4+, 9 TD4-, 10 GND, 11 A_GRN, 12 C_GRN, 13 A_YLW, 14 C_YLW, 15 MH1, 16 MH2, 17 SHELL_GND (power), 18 SHELL_GND (power)
text: GRN; YLW

## LED
designator LED?, comment RED_LED
直插式发光二极管,红色,带灯座; Manufacturer PartNumber: JH-03B2RD1E-DL; Manufacturer: 深圳市巨弘光电有限公司（JUHLIGHT）; Manufacturer Character: 中国大陆; PCB Footprint: CON_2P_3MM; Operation Temperature（℃）: -40~100℃; room: LED; As-Welded: /; Temperature: -40~105℃
footprint CON_2P_3MM
pins: 1 ANODE, 2 CATHODE

## LED_0_1
designator LED?, comment LED_GREEN
贴片式发光二极管,黄绿色,普亮; Manufacturer Character: 中国大陆; Manufacturer: 东莞市亿晶源光电科技有限公司（ekinglux）; Manufacturer PartNumber: E6C0603YGAC1UDA; PCB Footprint: D0603; Operation Temperature（℃）: -40~90℃; As-Welded: /; Temperature: -55~85℃
footprint D0603
pins: 1 CATHODE, 2 ANODE

## LT8912B_QFN64_0
designator U?, comment LT8912B
MIPI转HDMI/LVDS; Manufacturer Character: 中国大陆; Manufacturer: 龙迅半导体（合肥）股份有限公司; Part Description: LT8912B,QFN64; Standard PCB Footprint: QFN64; Operation Temperature（℃）: -40~85℃; As-Welded: /; PCB Footprint: QFN64_LT8912B; Part Number: 566-00-3037; Part Type: LontiumIC; Part Status: On Hand; Manufacturer PartNumber: LT8912B; Temperature: -40~85℃
footprint QFN64_LT8912B
pins: 1 MIPIRX0_DP, 2 MIPIRX0_DN, 3 MIPIRX1_DP, 4 MIPIRX1_DN, 5 VCCA_MIPIRX (power), 6 VSSA_MIPIRX (power), 7 MIPIRX_CKP, 8 MIPIRX_CKN, 9 MIPIRX2_DP, 10 MIPIRX2_DN, 11 MIPIRX3_DP, 12 MIPIRX3_DN, 13 R6K, 14 HPD_CBUS, 15 VBUS, 16 USB_ID, 17 VSS (power), 18 VDD (power), 19 USB_DP, 20 USB_DM, 21 HDMITX_CKN, 22 HDMITX_CKP, 23 VSSA_HDMITX (power), 24 HDMITX0_DN, 25 HDMITX0_DP, 26 VCCA_HDMITX (power), 27 HDMITX1_DN, 28 HDMITX1_DP, 29 VSSA_HDMITX (power), 30 HDMITX2_DN, 31 HDMITX2_DP, 32 VSS (power), 33 VDD (power), 34 VCCA_HDMIPLL (power), 35 LPF, 36 VSSA_HDMIPLL (power), 37 LVDSTX3_DP, 38 LVDSTX3_DN, 39 LVDSTX_CKP, 40 LVDSTX_CKN, 41 VCCA_LVDSTX (power), 42 VSSA_LVDSTX (power), 43 LVDSTX2_DP, 44 LVDSTX2_DN, 45 LVDSTX1_DP, 46 LVDSTX1_DN, 47 LVDSTX0_DP, 48 LVDSTX0_DN, 49 VSSA_SYSCLK (power), 50 VCCA_SYSCLK (power), 51 VSSA_LVDSPLL (power), 52 VCCA_LVDSPLL (power), 53 XTALI, 54 XTALO, 55 REFCLK, 56 VSS (power), 57 VDD (power), 58 SD0_CEC, 59 WS_I/SPDIF_IN, 60 SCLK_I, 61 S_SDA, 62 S_SCL, 63 INT, 64 RESET_N, 65 EPAD

## MAX232A_0
designator U?, comment SIT3232EEUE
RS232收发器; Manufacturer: 江苏芯力特电子科技有限公司（SIT）; Manufacturer Character: 中国大陆; As-Welded: /; Operation Temperature（℃）: -40~85℃; room: RS232; PCB Footprint: TSSOP16_PW16; Manufacturer PartNumber: SIT3232EEUE; Temperature: -40~85℃
footprint TSSOP16_PW16
pins: 1 C1+, 2 V+, 3 C1-, 4 C2+, 5 C2-, 6 V-, 7 T2out, 8 R2in, 9 R2out, 10 T2in, 11 T1in, 12 R1out, 13 R1in, 14 T1out, 15 GND, 16 VCC

## MAX637x
designator U?, comment MAX6369KA+T
低电平有效开漏输出,2.5V-5.5V,-40~125℃; Manufacturer Character: 国外; Manufacturer: Maxim Integrated（美国美信）; As-Welded: /; PCB Footprint: sot23_8; Temperature: -40~125℃; Manufacturer PartNumber: MAX6369KA+T; Operation Temperature（℃）: -40~125℃
footprint sot23_8
pins: 1 WDI, 2 GND, 3 NC, 4 SET0, 5 SET1, 6 SET2, 7 nWDO, 8 VCC

## MBRB1045_0
designator D?, comment MBR1060CD
肖特基二极管,VR=60V,IF=10A,VF=0.75V@5A,两路; Manufacturer Character: 中国大陆; Manufacturer: 辽宁芯诺电子科技有限公司（XINNUO）; PCB Footprint: TO-252; Operation Temperature（℃）: -55~150℃; As-Welded: /; Manufacturer PartNumber: MBR1060CD; Temperature: -55~150℃
footprint TO-252
pins: 1, 2, 3

## MCP2510/2515_2
designator U?, comment XL2515
带 SPI 接口的独立 CAN 控制器; Manufacturer: 信路达信息技术（厦门）有限（xinluda）; Manufacturer Character: 中国大陆; PCB Footprint: SOIC18; As-Welded: /; Operation Temperature（℃）: -40~85℃; Manufacturer PartNumber: XL2515; Temperature: -40~85℃
footprint SOIC18
pins: 1 TXCAN, 2 RXCAN, 3 CLKOUT, 4 nTX0TRS, 5 nTX1TRS, 6 nTX2TRS, 7 OSC2, 8 OSC1, 9 GND (power), 10 nRX1BF, 11 nRX0BF, 12 nINT, 13 SCK, 14 SI, 15 SO, 16 nCS, 17 nRESET, 18 VDD (power)

## MIC29302WU
designator U?, comment MIC29302S/TR
LDO,Vin:3~16V,Vout:1.25V~14.7V,3A; Manufacturer Character: 中国大陆; Manufacturer: 广东华冠半导体有限公司（HGSEMI）; PCB Footprint: TO-263; As-Welded: /; Operation Temperature（℃）: -40~125℃; Manufacturer PartNumber: MIC29302S/TR; Temperature: -60~150℃
footprint TO-263
pins: 1 EN, 2 INPUT, 3 GND (power), 4 OUTPUT, 5 ADJ, 6 TAB (power)

## MMBT3904/SOT
designator Q?, comment MMBT3904
BJT,NPN,Vceo=40V,Ic=200mA,fT=300MHz,PD=200mW; Manufacturer: 江苏长晶科技有限公司（JSCJ）; Manufacturer Character: 中国大陆; As-Welded: /; Operation Temperature（℃）: -55~150℃; PCB Footprint: SOT23-3_DBZ3; Manufacturer PartNumber: MMBT3904; Temperature: -55~150℃
footprint SOT23-3_DBZ3
pins: 1 B, 2 E, 3 C

## MMBT3904/SOT_1
designator Q?, comment CJ3400
MOSFET,N沟道,VDSS=30V,VGSS=±12V,ID=5.8A,PD=0.35W,VGS(th)=1.4V; Manufacturer Character: 中国大陆; Manufacturer: 江苏长晶科技有限公司（JSCJ）; ROOM: DSP_LED; As-Welded: /; Operation Temperature（℃）: -55~150℃; PCB Footprint: SOT23-3_DBZ3; Manufacturer PartNumber: CJ3400
footprint SOT23-3_DBZ3
pins: 1 B, 2 E, 3 C
text: D; G; S

## MOSFET P SOT
designator Q?, comment CJ3401
MOSFET,P沟道,VDSS=-30V,VGSS=±12V,ID=-4.2A,PD=0.35W,VGS(th)=-1.3V; Manufacturer Character: 中国大陆; Manufacturer: 江苏长晶科技有限公司（JSCJ）; As-Welded: /; Operation Temperature（℃）: -55~150℃; room: DCIN; PCB Footprint: SOT23-3; Temperature: -55~150℃; Manufacturer PartNumber: CJ3401; Manufacturer Part Number: CJ3401
footprint SOT23-3
pins: 1 GATE, 2 SOURCE, 3 DRAIN

## PHONEJACK STEREO SW_1
designator CON?, comment JQ-PJ-3106A-1
3.5mm耳机插座  四极带开关 6PIN  插件; Manufacturer Character: 中国大陆; Manufacturer: 浙江節麒電子科技有限公司; PCB Footprint: PJ-342E; room: 14; Operation Temperature（℃）: -25~85℃; As-Welded: /; Temperature: -20~70℃; Manufacturer PartNumber: JQ-PJ-3106A-1
footprint PJ-342E
pins: 1 MIC, 2 GND, 3 R, 4 DETR, 5 L, 6 DETL

## PROCONN SDC009-52-D_3
designator CON?, comment 1060802AR013
Micro SD卡座,9PIN,90度,贴片，GE- T-FLASH PUSH TYPE外焊式外壳带弹片1.80H(3U); Manufacturer: 广州高炬电子科技有限公司(TORCH); Manufacturer Character: 中国大陆; As-Welded: /; Operation Temperature（℃）: -40~85℃; PCB Footprint: CON_TF_CARD; Manufacturer PartNumber: 1060802AR013; Temperature: -40~85℃
footprint CON_TF_CARD
pins: 1 DAT2, 2 DAT3, 3 CMD, 4 VDD (power), 5 CLK, 6 VSS (power), 7 DAT0, 8 DAT1, 9 C/D, 10 SHIELD4 (power), 11 SHIELD3, 12 SHIELD2, 13 SHIELD1

## PRTR5V0U4Y
designator U?, comment LC0504F
ESD二极管,VRWM=5V,VBR=6V,四组,单向,8KV,15KV; Manufacturer Character: 中国大陆; Manufacturer: 上海雷卯电子科技有限公司（Leiditech）; PCB Footprint: SOT363; room: DRDUSB; Operation Temperature（℃）: -55~125℃; As-Welded: /; Temperature: -40~85℃; Manufacturer PartNumber: LC0504F
footprint SOT363
pins: 1, 2, 3, 4, 5, 6

## PSM712
designator U?, comment PESD2CANFD24V-K
TVS二极管; Manufacturer: 派克微电子（深圳）有限公司; Manufacturer Character: 中国大陆; As-Welded: /; Operation Temperature（℃）: -55~125℃; PCB Footprint: SOT23-3; Manufacturer PartNumber: PESD2CANFD24V-K
footprint SOT23-3
pins: 1 IO1, 2 IO2, 3 GND

## R 1%
designator R?, comment 120R_1%
贴片电阻,120R,±1%,1/8W; Manufacturer Character: 中国大陆; Characteristic: 0402 1/16W +/-1%; CLASS: DISCRETE; As-Welded: /; Operation Temperature（℃）: -55~155℃; PCB Footprint: R0805; Temperature: -55~125℃
footprint R0805
pins: 1, 2

## R 1%_1
designator R?, comment 22R_1%
贴片电阻,22R,±1%,1/16W; Manufacturer Character: 中国大陆; Characteristic: 0402 1/16W +/-1%; CLASS: DISCRETE; PCB Footprint: R0402; As-Welded: /; Operation Temperature（℃）: -55~155℃; Temperature: -55~155℃
footprint R0402
pins: 1, 2

## R 1%_9
designator R?, comment 165K_1%
贴片电阻,165K,±1%,1/10W; Manufacturer Character: 中国大陆; Characteristic: 0402 1/16W +/-1%; CLASS: DISCRETE; PCB Footprint: R0603; As-Welded: /; Operation Temperature（℃）: -55~155℃; Temperature: -55~155℃
footprint R0603
pins: 1, 2

## RCLAMP0524P
designator U?, comment PESDALC10N5VU
4通道超低电容瞬态抑制器; Manufacturer: 上海芯导电子科技有限公司（Prisemi）; Manufacturer Character: 中国大陆; PCB Footprint: DFN-10-2510; As-Welded: /; Operation Temperature（℃）: -40~85℃; Temperature: -55~125℃; Manufacturer PartNumber: PESDALC10N5VU
footprint DFN-10-2510
pins: 1 IN1, 2 IN2, 3 GND (power), 4 IN3, 5 IN4, 6 OUT4, 7 OUT3, 8 GND (power), 9 OUT2, 10 OUT1

## Resistor_Dup3_6
designator R?, comment 2R_1%
贴片电阻,2R,±1%,1/3W; Manufacturer Character: 中国大陆; CLASS: DISCRETE; As-Welded: /; Operation Temperature（℃）: -55~155℃; PCB Footprint: R1210
footprint R1210
pins: 1, 2

## SIM_CARD_2
designator CON?, comment SI63C-01200
Micro SIM卡座,6P,自弹; Manufacturer: 深圳市爱特姆科技有限公司( ATOM); Manufacturer Character: 中国大陆; As-Welded: /; PCB Footprint: micro-sim; Manufacturer PartNumber: SI63C-01200; Temperature: -40~85℃
footprint micro-sim
pins: 1 GND0, 2 GND1, 3 GND2, 4 GND3, C1 VCC, C2 RST, C3 CLK, C5 GND, C6 VPP, C7 IO

## SMA_5P
designator CON?, comment KH-SMA-K513-G
SMA端子,5PIN,间距5.08MM,侧插,90度,母座,无内针带套,插件; Manufacturer Character: 中国大陆; Manufacturer: 深圳市金航标电子有限公司(kinghelm); Operation Temperature（℃）: -55~155℃; As-Welded: /; PCB Footprint: CON_SMA_5P_V_DIP; Manufacturer PartNumber: KH-SMA-K513-G; Temperature: -55~155℃
footprint CON_SMA_5P_V_DIP
pins: 1, 2, 3, 4, 5

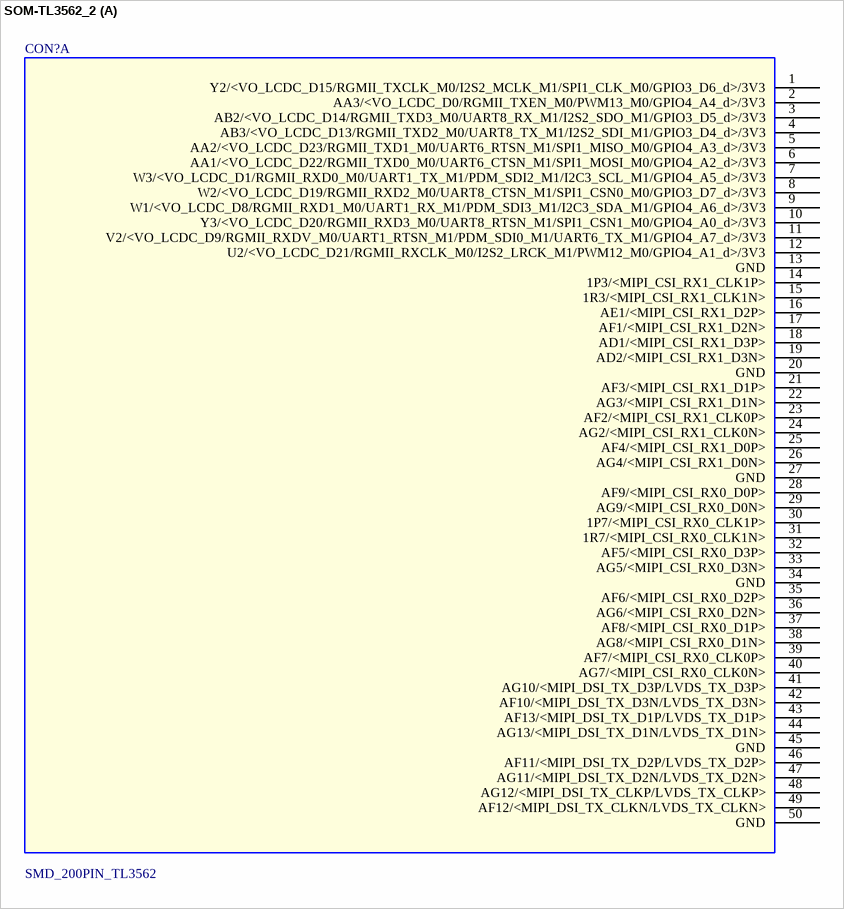
[diagram p3: symbol SOM-TL3562_2]

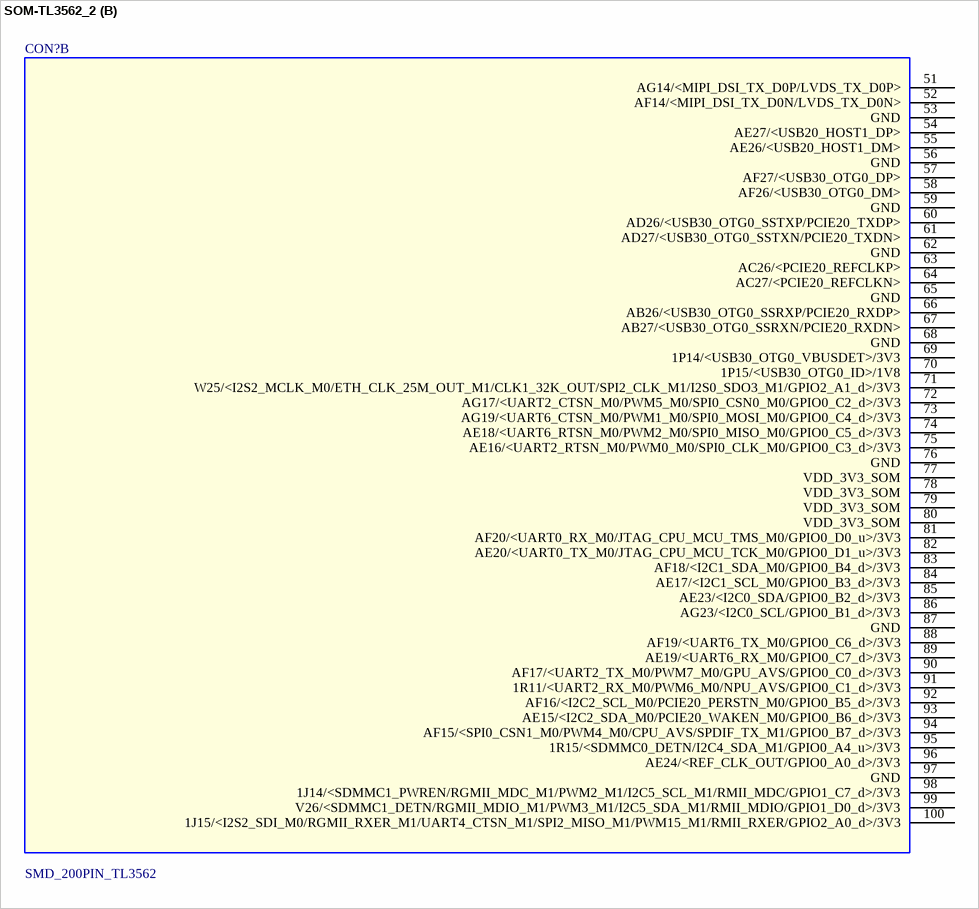
[diagram p4: symbol SOM-TL3562_2]

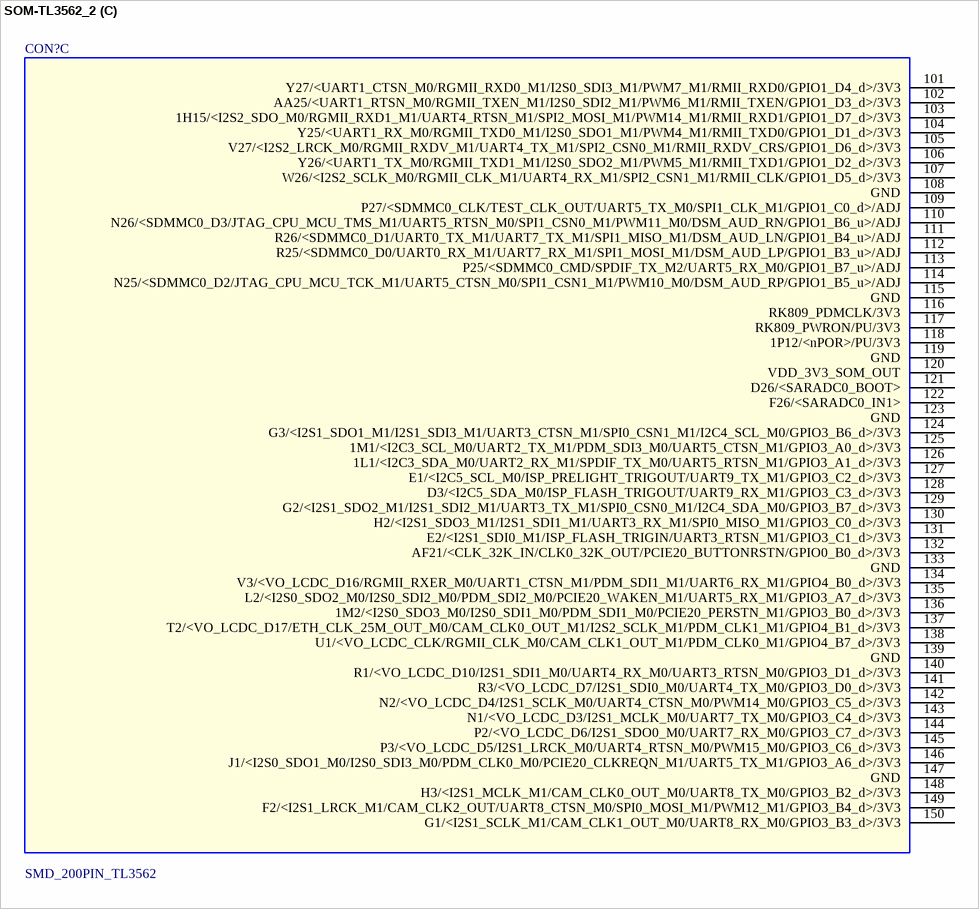
[diagram p5: symbol SOM-TL3562_2]

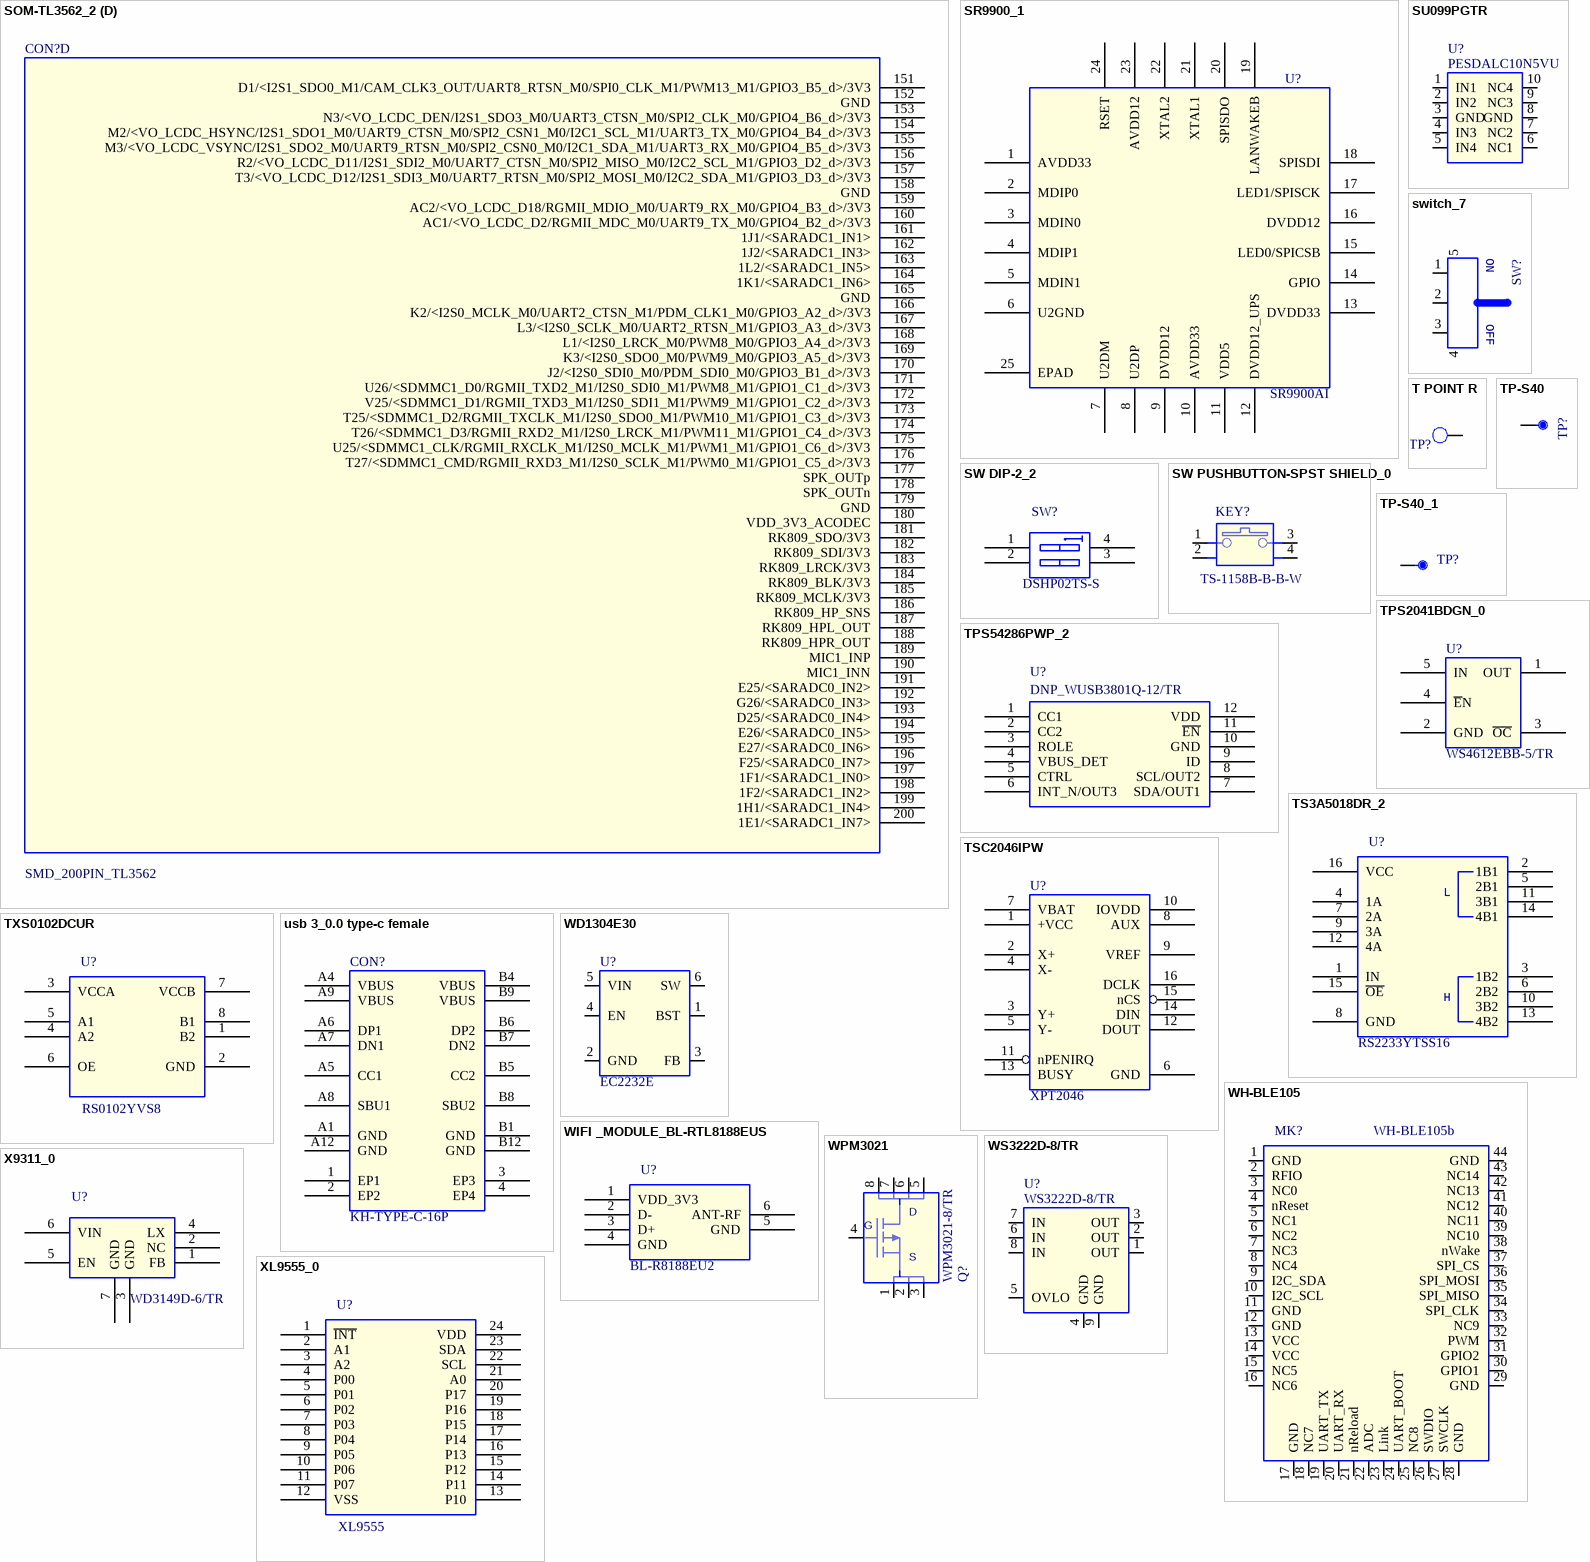
[diagram p6: symbols SOM-TL3562_2 to XL9555_0]

## SOM-TL3562_2
designator CON?, comment SMD_200PIN_TL3562
SPLIT_INST: TRUE; SWAP_INFO: (S1+S2+S3+S4); PCB Footprint: SMD_200P_45x45_TL3562
footprint SMD_200P_45x45_SOM-TL3562 (SMD_200P_45X45_TL3562)
part A pins: 1 Y2/<VO_LCDC_D15/RGMII_TXCLK_M0/I2S2_MCLK_M1/SPI1_CLK_M0/GPIO3_D6_d>/3V3, 2 AA3/<VO_LCDC_D0/RGMII_TXEN_M0/PWM13_M0/GPIO4_A4_d>/3V3, 3 AB2/<VO_LCDC_D14/RGMII_TXD3_M0/UART8_RX_M1/I2S2_SDO_M1/GPIO3_D5_d>/3V3, 4 AB3/<VO_LCDC_D13/RGMII_TXD2_M0/UART8_TX_M1/I2S2_SDI_M1/GPIO3_D4_d>/3V3, 5 AA2/<VO_LCDC_D23/RGMII_TXD1_M0/UART6_RTSN_M1/SPI1_MISO_M0/GPIO4_A3_d>/3V3, 6 AA1/<VO_LCDC_D22/RGMII_TXD0_M0/UART6_CTSN_M1/SPI1_MOSI_M0/GPIO4_A2_d>/3V3, 7 W3/<VO_LCDC_D1/RGMII_RXD0_M0/UART1_TX_M1/PDM_SDI2_M1/I2C3_SCL_M1/GPIO4_A5_d>/3V3, 8 W2/<VO_LCDC_D19/RGMII_RXD2_M0/UART8_CTSN_M1/SPI1_CSN0_M0/GPIO3_D7_d>/3V3, 9 W1/<VO_LCDC_D8/RGMII_RXD1_M0/UART1_RX_M1/PDM_SDI3_M1/I2C3_SDA_M1/GPIO4_A6_d>/3V3, 10 Y3/<VO_LCDC_D20/RGMII_RXD3_M0/UART8_RTSN_M1/SPI1_CSN1_M0/GPIO4_A0_d>/3V3, 11 V2/<VO_LCDC_D9/RGMII_RXDV_M0/UART1_RTSN_M1/PDM_SDI0_M1/UART6_TX_M1/GPIO4_A7_d>/3V3, 12 U2/<VO_LCDC_D21/RGMII_RXCLK_M0/I2S2_LRCK_M1/PWM12_M0/GPIO4_A1_d>/3V3, 13 GND (power), 14 1P3/<MIPI_CSI_RX1_CLK1P>, 15 1R3/<MIPI_CSI_RX1_CLK1N>, 16 AE1/<MIPI_CSI_RX1_D2P>, 17 AF1/<MIPI_CSI_RX1_D2N>, 18 AD1/<MIPI_CSI_RX1_D3P>, 19 AD2/<MIPI_CSI_RX1_D3N>, 20 GND (power), 21 AF3/<MIPI_CSI_RX1_D1P>, 22 AG3/<MIPI_CSI_RX1_D1N>, 23 AF2/<MIPI_CSI_RX1_CLK0P>, 24 AG2/<MIPI_CSI_RX1_CLK0N>, 25 AF4/<MIPI_CSI_RX1_D0P>, 26 AG4/<MIPI_CSI_RX1_D0N>, 27 GND (power), 28 AF9/<MIPI_CSI_RX0_D0P>, 29 AG9/<MIPI_CSI_RX0_D0N>, 30 1P7/<MIPI_CSI_RX0_CLK1P>, 31 1R7/<MIPI_CSI_RX0_CLK1N>, 32 AF5/<MIPI_CSI_RX0_D3P>, 33 AG5/<MIPI_CSI_RX0_D3N>, 34 GND (power), 35 AF6/<MIPI_CSI_RX0_D2P>, 36 AG6/<MIPI_CSI_RX0_D2N>, 37 AF8/<MIPI_CSI_RX0_D1P>, 38 AG8/<MIPI_CSI_RX0_D1N>, 39 AF7/<MIPI_CSI_RX0_CLK0P>, 40 AG7/<MIPI_CSI_RX0_CLK0N>, 41 AG10/<MIPI_DSI_TX_D3P/LVDS_TX_D3P>, 42 AF10/<MIPI_DSI_TX_D3N/LVDS_TX_D3N>, 43 AF13/<MIPI_DSI_TX_D1P/LVDS_TX_D1P>, 44 AG13/<MIPI_DSI_TX_D1N/LVDS_TX_D1N>, 45 GND (power), 46 AF11/<MIPI_DSI_TX_D2P/LVDS_TX_D2P>, 47 AG11/<MIPI_DSI_TX_D2N/LVDS_TX_D2N>, 48 AG12/<MIPI_DSI_TX_CLKP/LVDS_TX_CLKP>, 49 AF12/<MIPI_DSI_TX_CLKN/LVDS_TX_CLKN>, 50 GND (power)
part B pins: 51 AG14/<MIPI_DSI_TX_D0P/LVDS_TX_D0P>, 52 AF14/<MIPI_DSI_TX_D0N/LVDS_TX_D0N>, 53 GND (power), 54 AE27/<USB20_HOST1_DP>, 55 AE26/<USB20_HOST1_DM>, 56 GND (power), 57 AF27/<USB30_OTG0_DP>, 58 AF26/<USB30_OTG0_DM>, 59 GND (power), 60 AD26/<USB30_OTG0_SSTXP/PCIE20_TXDP>, 61 AD27/<USB30_OTG0_SSTXN/PCIE20_TXDN>, 62 GND (power), 63 AC26/<PCIE20_REFCLKP>, 64 AC27/<PCIE20_REFCLKN>, 65 GND (power), 66 AB26/<USB30_OTG0_SSRXP/PCIE20_RXDP>, 67 AB27/<USB30_OTG0_SSRXN/PCIE20_RXDN>, 68 GND (power), 69 1P14/<USB30_OTG0_VBUSDET>/3V3, 70 1P15/<USB30_OTG0_ID>/1V8, 71 W25/<I2S2_MCLK_M0/ETH_CLK_25M_OUT_M1/CLK1_32K_OUT/SPI2_CLK_M1/I2S0_SDO3_M1/GPIO2_A1_d>/3V3, 72 AG17/<UART2_CTSN_M0/PWM5_M0/SPI0_CSN0_M0/GPIO0_C2_d>/3V3, 73 AG19/<UART6_CTSN_M0/PWM1_M0/SPI0_MOSI_M0/GPIO0_C4_d>/3V3, 74 AE18/<UART6_RTSN_M0/PWM2_M0/SPI0_MISO_M0/GPIO0_C5_d>/3V3, 75 AE16/<UART2_RTSN_M0/PWM0_M0/SPI0_CLK_M0/GPIO0_C3_d>/3V3, 76 GND (power), 77 VDD_3V3_SOM (power), 78 VDD_3V3_SOM (power), 79 VDD_3V3_SOM (power), 80 VDD_3V3_SOM (power), 81 AF20/<UART0_RX_M0/JTAG_CPU_MCU_TMS_M0/GPIO0_D0_u>/3V3, 82 AE20/<UART0_TX_M0/JTAG_CPU_MCU_TCK_M0/GPIO0_D1_u>/3V3, 83 AF18/<I2C1_SDA_M0/GPIO0_B4_d>/3V3, 84 AE17/<I2C1_SCL_M0/GPIO0_B3_d>/3V3, 85 AE23/<I2C0_SDA/GPIO0_B2_d>/3V3, 86 AG23/<I2C0_SCL/GPIO0_B1_d>/3V3, 87 GND (power), 88 AF19/<UART6_TX_M0/GPIO0_C6_d>/3V3, 89 AE19/<UART6_RX_M0/GPIO0_C7_d>/3V3, 90 AF17/<UART2_TX_M0/PWM7_M0/GPU_AVS/GPIO0_C0_d>/3V3, 91 1R11/<UART2_RX_M0/PWM6_M0/NPU_AVS/GPIO0_C1_d>/3V3, 92 AF16/<I2C2_SCL_M0/PCIE20_PERSTN_M0/GPIO0_B5_d>/3V3, 93 AE15/<I2C2_SDA_M0/PCIE20_WAKEN_M0/GPIO0_B6_d>/3V3, 94 AF15/<SPI0_CSN1_M0/PWM4_M0/CPU_AVS/SPDIF_TX_M1/GPIO0_B7_d>/3V3, 95 1R15/<SDMMC0_DETN/I2C4_SDA_M1/GPIO0_A4_u>/3V3, 96 AE24/<REF_CLK_OUT/GPIO0_A0_d>/3V3, 97 GND (power), 98 1J14/<SDMMC1_PWREN/RGMII_MDC_M1/PWM2_M1/I2C5_SCL_M1/RMII_MDC/GPIO1_C7_d>/3V3, 99 V26/<SDMMC1_DETN/RGMII_MDIO_M1/PWM3_M1/I2C5_SDA_M1/RMII_MDIO/GPIO1_D0_d>/3V3, 100 1J15/<I2S2_SDI_M0/RGMII_RXER_M1/UART4_CTSN_M1/SPI2_MISO_M1/PWM15_M1/RMII_RXER/GPIO2_A0_d>/3V3
part C pins: 101 Y27/<UART1_CTSN_M0/RGMII_RXD0_M1/I2S0_SDI3_M1/PWM7_M1/RMII_RXD0/GPIO1_D4_d>/3V3, 102 AA25/<UART1_RTSN_M0/RGMII_TXEN_M1/I2S0_SDI2_M1/PWM6_M1/RMII_TXEN/GPIO1_D3_d>/3V3, 103 1H15/<I2S2_SDO_M0/RGMII_RXD1_M1/UART4_RTSN_M1/SPI2_MOSI_M1/PWM14_M1/RMII_RXD1/GPIO1_D7_d>/3V3, 104 Y25/<UART1_RX_M0/RGMII_TXD0_M1/I2S0_SDO1_M1/PWM4_M1/RMII_TXD0/GPIO1_D1_d>/3V3, 105 V27/<I2S2_LRCK_M0/RGMII_RXDV_M1/UART4_TX_M1/SPI2_CSN0_M1/RMII_RXDV_CRS/GPIO1_D6_d>/3V3, 106 Y26/<UART1_TX_M0/RGMII_TXD1_M1/I2S0_SDO2_M1/PWM5_M1/RMII_TXD1/GPIO1_D2_d>/3V3, 107 W26/<I2S2_SCLK_M0/RGMII_CLK_M1/UART4_RX_M1/SPI2_CSN1_M1/RMII_CLK/GPIO1_D5_d>/3V3, 108 GND (power), 109 P27/<SDMMC0_CLK/TEST_CLK_OUT/UART5_TX_M0/SPI1_CLK_M1/GPIO1_C0_d>/ADJ, 110 N26/<SDMMC0_D3/JTAG_CPU_MCU_TMS_M1/UART5_RTSN_M0/SPI1_CSN0_M1/PWM11_M0/DSM_AUD_RN/GPIO1_B6_u>/ADJ, 111 R26/<SDMMC0_D1/UART0_TX_M1/UART7_TX_M1/SPI1_MISO_M1/DSM_AUD_LN/GPIO1_B4_u>/ADJ, 112 R25/<SDMMC0_D0/UART0_RX_M1/UART7_RX_M1/SPI1_MOSI_M1/DSM_AUD_LP/GPIO1_B3_u>/ADJ, 113 P25/<SDMMC0_CMD/SPDIF_TX_M2/UART5_RX_M0/GPIO1_B7_u>/ADJ, 114 N25/<SDMMC0_D2/JTAG_CPU_MCU_TCK_M1/UART5_CTSN_M0/SPI1_CSN1_M1/PWM10_M0/DSM_AUD_RP/GPIO1_B5_u>/ADJ, 115 GND (power), 116 RK809_PDMCLK/3V3, 117 RK809_PWRON/PU/3V3, 118 1P12/<nPOR>/PU/3V3, 119 GND (power), 120 VDD_3V3_SOM_OUT, 121 D26/<SARADC0_BOOT>, 122 F26/<SARADC0_IN1>, 123 GND (power), 124 G3/<I2S1_SDO1_M1/I2S1_SDI3_M1/UART3_CTSN_M1/SPI0_CSN1_M1/I2C4_SCL_M0/GPIO3_B6_d>/3V3, 125 1M1/<I2C3_SCL_M0/UART2_TX_M1/PDM_SDI3_M0/UART5_CTSN_M1/GPIO3_A0_d>/3V3, 126 1L1/<I2C3_SDA_M0/UART2_RX_M1/SPDIF_TX_M0/UART5_RTSN_M1/GPIO3_A1_d>/3V3, 127 E1/<I2C5_SCL_M0/ISP_PRELIGHT_TRIGOUT/UART9_TX_M1/GPIO3_C2_d>/3V3, 128 D3/<I2C5_SDA_M0/ISP_FLASH_TRIGOUT/UART9_RX_M1/GPIO3_C3_d>/3V3, 129 G2/<I2S1_SDO2_M1/I2S1_SDI2_M1/UART3_TX_M1/SPI0_CSN0_M1/I2C4_SDA_M0/GPIO3_B7_d>/3V3, 130 H2/<I2S1_SDO3_M1/I2S1_SDI1_M1/UART3_RX_M1/SPI0_MISO_M1/GPIO3_C0_d>/3V3, 131 E2/<I2S1_SDI0_M1/ISP_FLASH_TRIGIN/UART3_RTSN_M1/GPIO3_C1_d>/3V3, 132 AF21/<CLK_32K_IN/CLK0_32K_OUT/PCIE20_BUTTONRSTN/GPIO0_B0_d>/3V3, 133 GND (power), 134 V3/<VO_LCDC_D16/RGMII_RXER_M0/UART1_CTSN_M1/PDM_SDI1_M1/UART6_RX_M1/GPIO4_B0_d>/3V3, 135 L2/<I2S0_SDO2_M0/I2S0_SDI2_M0/PDM_SDI2_M0/PCIE20_WAKEN_M1/UART5_RX_M1/GPIO3_A7_d>/3V3, 136 1M2/<I2S0_SDO3_M0/I2S0_SDI1_M0/PDM_SDI1_M0/PCIE20_PERSTN_M1/GPIO3_B0_d>/3V3, 137 T2/<VO_LCDC_D17/ETH_CLK_25M_OUT_M0/CAM_CLK0_OUT_M1/I2S2_SCLK_M1/PDM_CLK1_M1/GPIO4_B1_d>/3V3, 138 U1/<VO_LCDC_CLK/RGMII_CLK_M0/CAM_CLK1_OUT_M1/PDM_CLK0_M1/GPIO4_B7_d>/3V3, 139 GND (power), 140 R1/<VO_LCDC_D10/I2S1_SDI1_M0/UART4_RX_M0/UART3_RTSN_M0/GPIO3_D1_d>/3V3, 141 R3/<VO_LCDC_D7/I2S1_SDI0_M0/UART4_TX_M0/GPIO3_D0_d>/3V3, 142 N2/<VO_LCDC_D4/I2S1_SCLK_M0/UART4_CTSN_M0/PWM14_M0/GPIO3_C5_d>/3V3, 143 N1/<VO_LCDC_D3/I2S1_MCLK_M0/UART7_TX_M0/GPIO3_C4_d>/3V3, 144 P2/<VO_LCDC_D6/I2S1_SDO0_M0/UART7_RX_M0/GPIO3_C7_d>/3V3, 145 P3/<VO_LCDC_D5/I2S1_LRCK_M0/UART4_RTSN_M0/PWM15_M0/GPIO3_C6_d>/3V3, 146 J1/<I2S0_SDO1_M0/I2S0_SDI3_M0/PDM_CLK0_M0/PCIE20_CLKREQN_M1/UART5_TX_M1/GPIO3_A6_d>/3V3, 147 GND (power), 148 H3/<I2S1_MCLK_M1/CAM_CLK0_OUT_M0/UART8_TX_M0/GPIO3_B2_d>/3V3, 149 F2/<I2S1_LRCK_M1/CAM_CLK2_OUT/UART8_CTSN_M0/SPI0_MOSI_M1/PWM12_M1/GPIO3_B4_d>/3V3, 150 G1/<I2S1_SCLK_M1/CAM_CLK1_OUT_M0/UART8_RX_M0/GPIO3_B3_d>/3V3
part D pins: 151 D1/<I2S1_SDO0_M1/CAM_CLK3_OUT/UART8_RTSN_M0/SPI0_CLK_M1/PWM13_M1/GPIO3_B5_d>/3V3, 152 GND (power), 153 N3/<VO_LCDC_DEN/I2S1_SDO3_M0/UART3_CTSN_M0/SPI2_CLK_M0/GPIO4_B6_d>/3V3, 154 M2/<VO_LCDC_HSYNC/I2S1_SDO1_M0/UART9_CTSN_M0/SPI2_CSN1_M0/I2C1_SCL_M1/UART3_TX_M0/GPIO4_B4_d>/3V3, 155 M3/<VO_LCDC_VSYNC/I2S1_SDO2_M0/UART9_RTSN_M0/SPI2_CSN0_M0/I2C1_SDA_M1/UART3_RX_M0/GPIO4_B5_d>/3V3, 156 R2/<VO_LCDC_D11/I2S1_SDI2_M0/UART7_CTSN_M0/SPI2_MISO_M0/I2C2_SCL_M1/GPIO3_D2_d>/3V3, 157 T3/<VO_LCDC_D12/I2S1_SDI3_M0/UART7_RTSN_M0/SPI2_MOSI_M0/I2C2_SDA_M1/GPIO3_D3_d>/3V3, 158 GND (power), 159 AC2/<VO_LCDC_D18/RGMII_MDIO_M0/UART9_RX_M0/GPIO4_B3_d>/3V3, 160 AC1/<VO_LCDC_D2/RGMII_MDC_M0/UART9_TX_M0/GPIO4_B2_d>/3V3, 161 1J1/<SARADC1_IN1>, 162 1J2/<SARADC1_IN3>, 163 1L2/<SARADC1_IN5>, 164 1K1/<SARADC1_IN6>, 165 GND (power), 166 K2/<I2S0_MCLK_M0/UART2_CTSN_M1/PDM_CLK1_M0/GPIO3_A2_d>/3V3, 167 L3/<I2S0_SCLK_M0/UART2_RTSN_M1/GPIO3_A3_d>/3V3, 168 L1/<I2S0_LRCK_M0/PWM8_M0/GPIO3_A4_d>/3V3, 169 K3/<I2S0_SDO0_M0/PWM9_M0/GPIO3_A5_d>/3V3, 170 J2/<I2S0_SDI0_M0/PDM_SDI0_M0/GPIO3_B1_d>/3V3, 171 U26/<SDMMC1_D0/RGMII_TXD2_M1/I2S0_SDI0_M1/PWM8_M1/GPIO1_C1_d>/3V3, 172 V25/<SDMMC1_D1/RGMII_TXD3_M1/I2S0_SDI1_M1/PWM9_M1/GPIO1_C2_d>/3V3, 173 T25/<SDMMC1_D2/RGMII_TXCLK_M1/I2S0_SDO0_M1/PWM10_M1/GPIO1_C3_d>/3V3, 174 T26/<SDMMC1_D3/RGMII_RXD2_M1/I2S0_LRCK_M1/PWM11_M1/GPIO1_C4_d>/3V3, 175 U25/<SDMMC1_CLK/RGMII_RXCLK_M1/I2S0_MCLK_M1/PWM1_M1/GPIO1_C6_d>/3V3, 176 T27/<SDMMC1_CMD/RGMII_RXD3_M1/I2S0_SCLK_M1/PWM0_M1/GPIO1_C5_d>/3V3, 177 SPK_OUTp, 178 SPK_OUTn, 179 GND (power), 180 VDD_3V3_ACODEC, 181 RK809_SDO/3V3, 182 RK809_SDI/3V3, 183 RK809_LRCK/3V3, 184 RK809_BLK/3V3, 185 RK809_MCLK/3V3, 186 RK809_HP_SNS, 187 RK809_HPL_OUT, 188 RK809_HPR_OUT, 189 MIC1_INP, 190 MIC1_INN, 191 E25/<SARADC0_IN2>, 192 G26/<SARADC0_IN3>, 193 D25/<SARADC0_IN4>, 194 E26/<SARADC0_IN5>, 195 E27/<SARADC0_IN6>, 196 F25/<SARADC0_IN7>, 197 1F1/<SARADC1_IN0>, 198 1F2/<SARADC1_IN2>, 199 1H1/<SARADC1_IN4>, 200 1E1/<SARADC1_IN7>

## SR9900_1
designator U?, comment SR9900AI
以太网控制器，USB; Manufacturer Character: 中国大陆; Manufacturer: 深圳市和芯润德科技有限公司; PCB Footprint: QFN24-4X4-0d5; Operation Temperature（℃）: -40~85℃; As-Welded: /; Manufacturer PartNumber: SR9900AI
footprint QFN24-4X4-0d5
pins: 1 AVDD33 (power), 2 MDIP0, 3 MDIN0, 4 MDIP1, 5 MDIN1, 6 U2GND (power), 7 U2DM, 8 U2DP, 9 DVDD12 (power), 10 AVDD33 (power), 11 VDD5, 12 DVDD12_UPS (power), 13 DVDD33 (power), 14 GPIO, 15 LED0/SPICSB, 16 DVDD12 (power), 17 LED1/SPISCK, 18 SPISDI, 19 LANWAKEB, 20 SPISDO, 21 XTAL1, 22 XTAL2, 23 AVDD12 (power), 24 RSET, 25 EPAD (power)

## SU099PGTR
designator U?, comment PESDALC10N5VU
4通道超低电容瞬态抑制器; Manufacturer Character: 中国大陆; Manufacturer: 上海芯导电子科技有限公司（Prisemi）; Operation Temperature（℃）: -40~85℃; As-Welded: /; PCB Footprint: DFN-10-2510; Manufacturer PartNumber: PESDALC10N5VU; Temperature: -55~150
footprint DFN-10-2510
pins: 1 IN1, 2 IN2, 3 GND (power), 4 IN3, 5 IN4, 6 NC1, 7 NC2, 8 GND (power), 9 NC3, 10 NC4

## SW DIP-2_2
designator SW?, comment DSHP02TS-S
Manufacturer: 广东星坤科技股份有限公司（XKB）; Manufacturer Character: 中国大陆; Operation Temperature（℃）: -20~70℃; As-Welded: /; Remark: 2位直插拨码开关 红色; PCB Footprint: DSHP02TS; Manufacturer PartNumber: DSHP02TS-S
footprint DSHP02TS
pins: 1 A1, 2 A2, 3 B2, 4 B1

## SW PUSHBUTTON-SPST SHIELD_0
designator KEY?, comment TS-1158B-B-B-W
四脚方形按键6.4x6.5，2.5mm+1.8mm，白色硅胶键帽; Manufacturer: 广东星坤科技股份有限公司（XKB）; Manufacturer Character: 中国大陆; As-Welded: /; room: KEY; Operation Temperature（℃）: -40~85℃; Manufacturer PartNumber: TS-1158B-B-B-W; PCB Footprint: TS-1158B-B-B-W
footprint TS-1158B-B-B-W
pins: 1, 2, 3, 4

## switch_7
designator SW?, comment SS-12D11L5  (value not drawn)
拨动开关，2档3脚侧拨开关,黑色,90度,短柄; Manufacturer: 广东星坤科技股份有限公司（XKB）; Manufacturer Character: 中国大陆; PCB Footprint: sw-126_76; As-Welded: /; Manufacturer PartNumber: SS-12D11L5
footprint sw-126_76
pins: 1, 2, 3, 4, 5
text: ON; OFF

## T POINT R
designator TP?, comment SMT TP  (value not drawn)
Manufacturer Character: 中国大陆; CLASS: IC; PCB Footprint: TP30; AGILE_PN: 510-75618; CAD_APPROVED: Yes; As-Welded: /; HEIGHT: 0.1MM
footprint TP30
pins: 1 TP

## TP-S40
designator TP?, comment SMT TP  (value not drawn)
Manufacturer Character: 中国大陆; Characteristic: Test point,diameter=1.0mm; As-Welded: /; PCB Footprint: TP30
footprint TP30
pins: 1

## TP-S40_1
designator TP?, comment Black Test Point  (value not drawn)
黑色直插测试柱; Manufacturer: 深圳市保定五金塑胶有限公司; Manufacturer PartNumber: TP-5011; Manufacturer Character: 中国大陆; Characteristic: Test point,diameter=1.0mm; Operation Temperature（℃）: -40~85℃; As-Welded: /; PCB Footprint: TP_DIP
footprint TP_DIP
pins: 1

## TPS2041BDGN_0
designator U?, comment WS4612EBB-5/TR
限流配电开关,2.5V~5.5V,1.4A; Manufacturer Character: 中国大陆; Manufacturer: 上海韦尔半导体股份有限公司（WILLSEMI）; Operation Temperature（℃）: -40~85℃; room: DRDUSB; As-Welded: /; PCB Footprint: SOT23-5; Temperature: -40~85℃; Manufacturer PartNumber: WS4612EBB-5/TR
footprint SOT23-5
pins: 1 OUT, 2 GND, 3 ~{OC}, 4 ~{E}N, 5 IN

## TPS54286PWP_2
designator U?, comment DNP_WUSB3801Q-12/TR
USB Type-C配置通道适配器芯片; Manufacturer: 上海韦尔半导体股份有限公司（WILLSEMI）; Manufacturer Character: 中国大陆; PCB Footprint: QFN1616-12L; Operation Temperature（℃）: -40~125℃; As-Welded: DNP; Manufacturer PartNumber: WUSB3801Q-12/TR
footprint QFN1616-12L
pins: 1 CC1, 2 CC2, 3 ROLE, 4 VBUS_DET, 5 CTRL, 6 INT_N/OUT3, 7 SDA/OUT1, 8 SCL/OUT2, 9 ID, 10 GND (power), 11 ~{EN}, 12 VDD (power)

## TS3A5018DR_2
designator U?, comment RS2233YTSS16
4路模拟开关芯片; Manufacturer: 江苏润石科技有限公司（RUNIC）; Manufacturer Character: 中国大陆; Operation Temperature（℃）: -40~85℃; room: JTAG_DSP; As-Welded: /; PCB Footprint: TSSOP16; Temperature: -40~85℃; Manufacturer PartNumber: RS2233YTSS16
footprint TSSOP16
pins: 1 IN, 2 1B1, 3 1B2, 4 1A, 5 2B1, 6 2B2, 7 2A, 8 GND (power), 9 3A, 10 3B2, 11 3B1, 12 4A, 13 4B2, 14 4B1, 15 ~{OE}, 16 VCC (power)
text: L; H

## TSC2046IPW
designator U?, comment XPT2046
触摸屏芯片; Manufacturer: 深圳市矽普特科技有限公司（XPT）; Manufacturer Character: 中国大陆; PCB Footprint: TSSOP16_PW16; Operation Temperature（℃）: -40~85℃; room: 10; As-Welded: /; Manufacturer PartNumber: XPT2046
footprint TSSOP16_PW16
pins: 1 +VCC, 2 X+, 3 Y+, 4 X-, 5 Y-, 6 GND, 7 VBAT, 8 AUX, 9 VREF, 10 IOVDD, 11 nPENIRQ, 12 DOUT, 13 BUSY, 14 DIN, 15 nCS, 16 DCLK

## TXS0102DCUR
designator U?, comment RS0102YVS8
2位双向电平转换器; Manufacturer: 江苏润石科技有限公司（RUNIC）; Manufacturer Character: 中国大陆; As-Welded: /; Operation Temperature（℃）: -40~85℃; PCB Footprint: SOP8-20-91; Temperature: -40~85℃; Manufacturer PartNumber: RS0102YVS8
footprint SOP8-20-91
pins: 1 B2, 2 GND, 3 VCCA, 4 A2, 5 A1, 6 OE, 7 VCCB, 8 B1